# Altium integrated library Altera MAX 7000B.IntLib: 128 symbols (part 4 of 9)
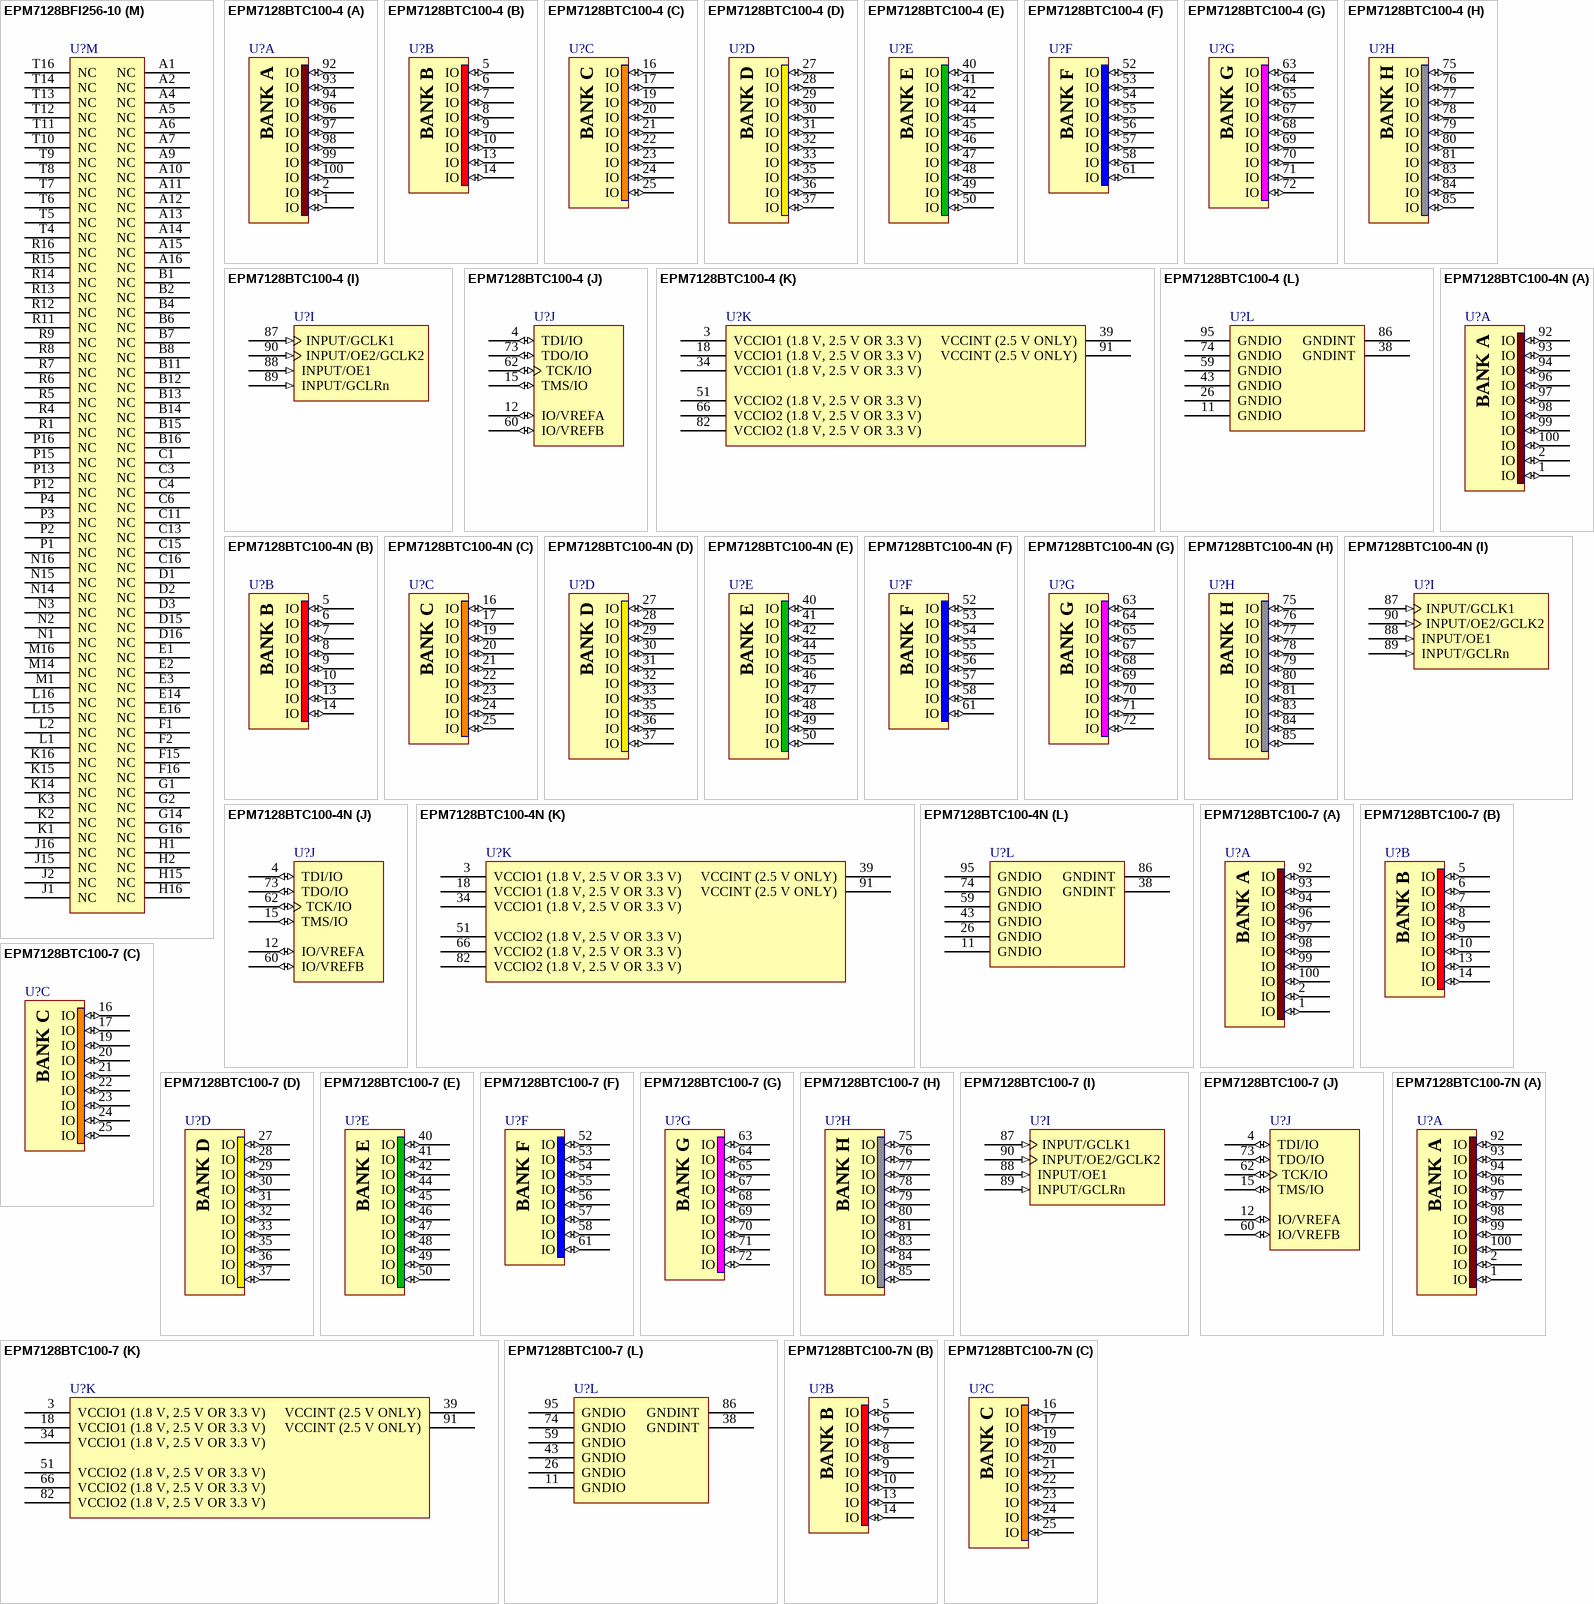
[diagram p50: symbols EPM7128BFI256-10 to EPM7128BTC100-7N]

## EPM7128BTC100-7
designator U?
Max 7000B 2.5V CPLD, 128 Macrocells, 100-Pin TQFP, Speed Grade 7, Commercial Grade; Published: 23-Sep-2002; LatestRevisionDate: 13-Apr-2006; LatestRevisionNote: IPC-7351 Footprint Added.; DatasheetVersion: ver3.5, Sep-2005; PackageVersion: ver15.1, May-2008; PackageReference: TQFP100; Publisher: Altium Limited; PackageDescription: 100-Pin Plastic Thin Quad Flat Pack (TQFP100) - Wire Bond; Supplier 1: Digi-Key; Supplier Part Number 1: EPM7128BTC100-7-ND; Code_JEDEC: MS-026-AED; ComponentLink1Description: Manufacturer Link; ComponentLink1URL: http://www.altera.com/products/devices/max7k/m7k-index.html; ComponentLink2Description: Datasheet; ComponentLink2URL: http://www.altera.com/literature/ds/m7000b.pdf; ComponentLink3Description: Packaging Specification; ComponentLink3URL: http://www.altera.com/literature/ds/dspkg.pdf
footprint TQFP100_N (Thin QFP, 100-Leads, Body 14x14mm, Pitch 0.5mm, IPC Medium Density)
footprint TQFP100_L (Thin QFP, 100-Leads, Body 14x14mm, Pitch 0.5mm, IPC High Density)
footprint TQFP100_M (Thin QFP, 100-Leads, Body 14x14mm, Pitch 0.5mm, IPC Low Density)
3D model EPM7128B-TQFP100 (100-Pin Plastic Thin Quad Flat Pack (TQFP100) - Wire Bond)
signal-integrity model 7kb (MAX 7000B)
part A pins: 1 IO (io), 2 IO (io), 92 IO (io), 93 IO (io), 94 IO (io), 96 IO (io), 97 IO (io), 98 IO (io), 99 IO (io), 100 IO (io)
part B pins: 5 IO (io), 6 IO (io), 7 IO (io), 8 IO (io), 9 IO (io), 10 IO (io), 13 IO (io), 14 IO (io)
part C pins: 16 IO (io), 17 IO (io), 19 IO (io), 20 IO (io), 21 IO (io), 22 IO (io), 23 IO (io), 24 IO (io), 25 IO (io)
part D pins: 27 IO (io), 28 IO (io), 29 IO (io), 30 IO (io), 31 IO (io), 32 IO (io), 33 IO (io), 35 IO (io), 36 IO (io), 37 IO (io)
part E pins: 40 IO (io), 41 IO (io), 42 IO (io), 44 IO (io), 45 IO (io), 46 IO (io), 47 IO (io), 48 IO (io), 49 IO (io), 50 IO (io)
part F pins: 52 IO (io), 53 IO (io), 54 IO (io), 55 IO (io), 56 IO (io), 57 IO (io), 58 IO (io), 61 IO (io)
part G pins: 63 IO (io), 64 IO (io), 65 IO (io), 67 IO (io), 68 IO (io), 69 IO (io), 70 IO (io), 71 IO (io), 72 IO (io)
part H pins: 75 IO (io), 76 IO (io), 77 IO (io), 78 IO (io), 79 IO (io), 80 IO (io), 81 IO (io), 83 IO (io), 84 IO (io), 85 IO (io)
part I pins: 87 INPUT/GCLK1 (in), 88 INPUT/OE1 (in), 89 INPUT/GCLRn (in), 90 INPUT/OE2/GCLK2 (in)
part J pins: 4 TDI/IO (io), 12 IO/VREFA (io), 15 TMS/IO (io), 60 IO/VREFB (io), 62 TCK/IO (io), 73 TDO/IO (io)
part K pins: 3 VCCIO1 (1.8 V, 2.5 V OR 3.3 V) (power), 18 VCCIO1 (1.8 V, 2.5 V OR 3.3 V) (power), 34 VCCIO1 (1.8 V, 2.5 V OR 3.3 V) (power), 39 VCCINT (2.5 V ONLY) (power), 51 VCCIO2 (1.8 V, 2.5 V OR 3.3 V) (power), 66 VCCIO2 (1.8 V, 2.5 V OR 3.3 V) (power), 82 VCCIO2 (1.8 V, 2.5 V OR 3.3 V) (power), 91 VCCINT (2.5 V ONLY) (power)
part L pins: 11 GNDIO (power), 26 GNDIO (power), 38 GNDINT (power), 43 GNDIO (power), 59 GNDIO (power), 74 GNDIO (power), 86 GNDINT (power), 95 GNDIO (power)
part A text: BANK A
part B text: BANK B
part C text: BANK C
part D text: BANK D
part E text: BANK E
part F text: BANK F
part G text: BANK G
part H text: BANK H

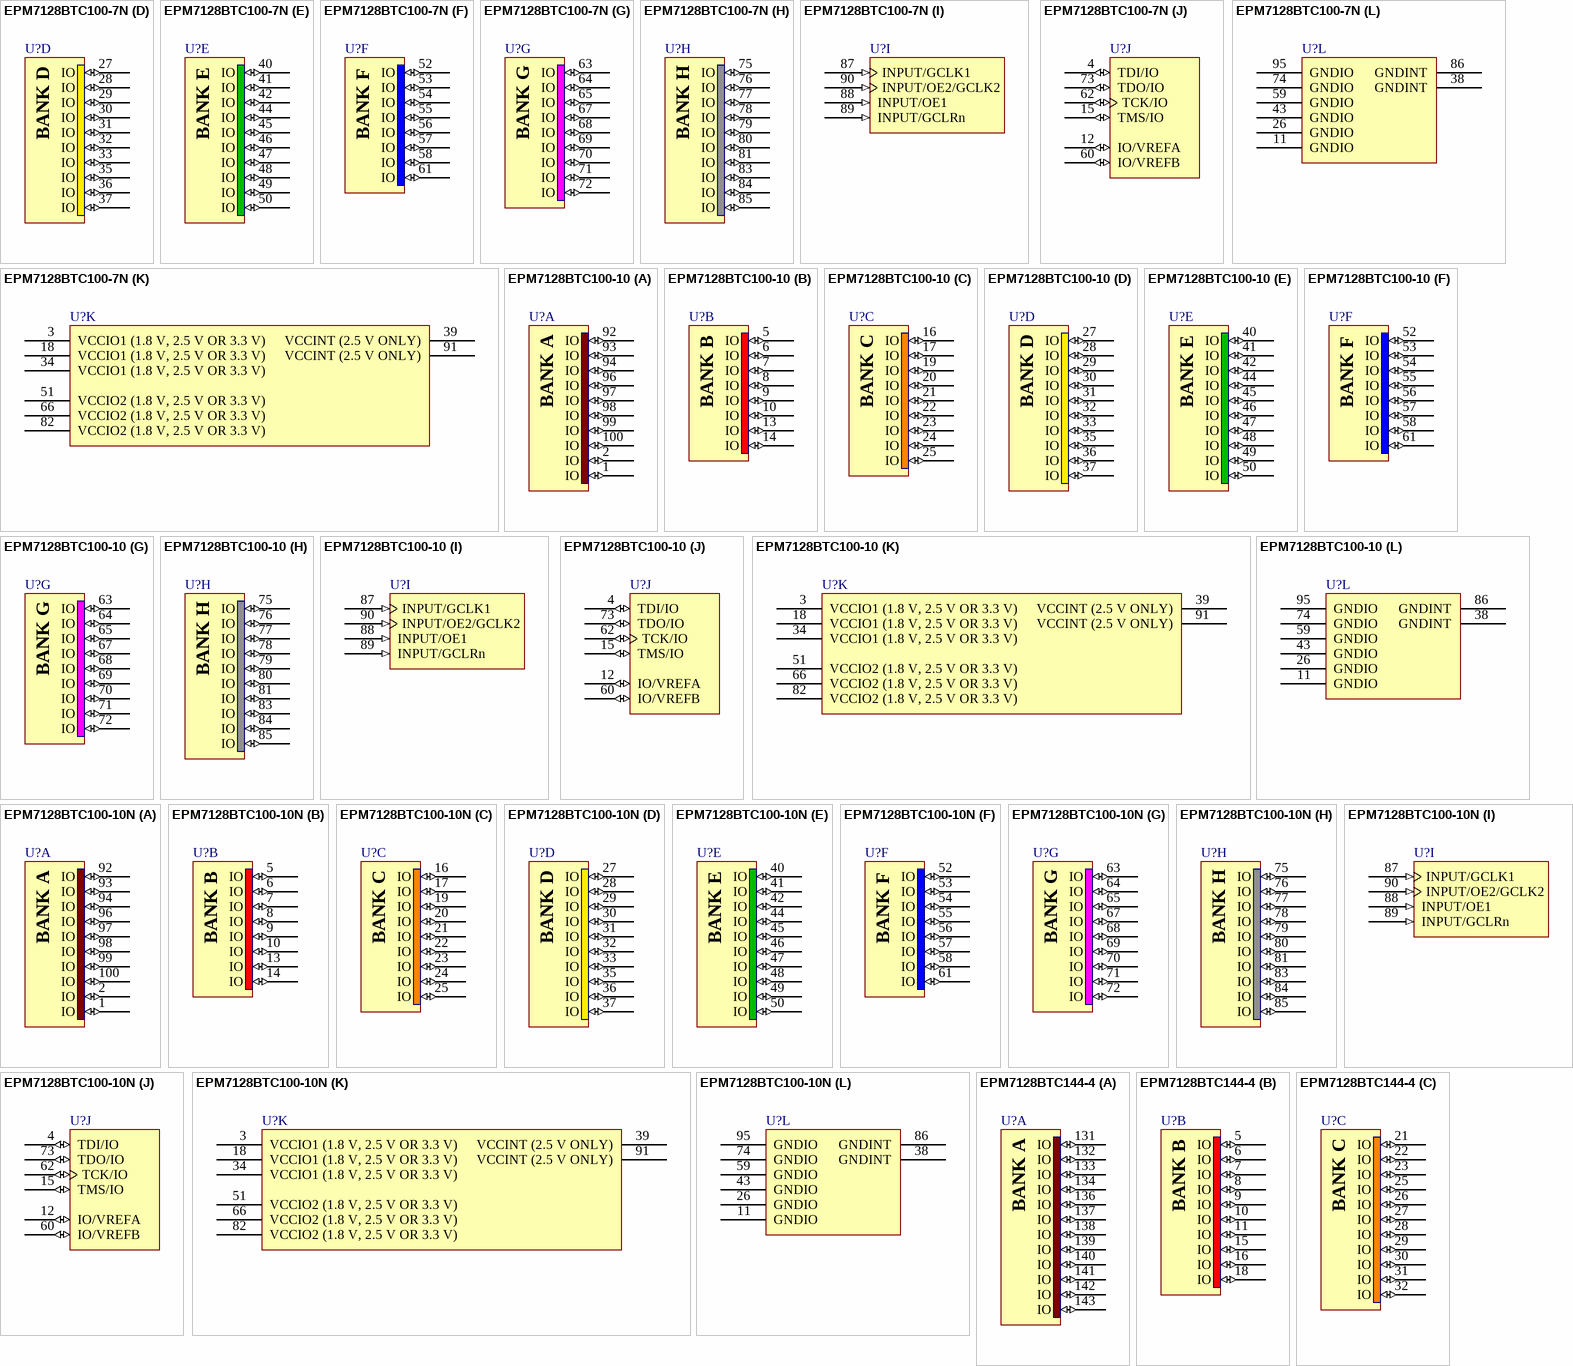
[diagram p16: symbols EPM7128BTC100-7N to EPM7128BTC144-4]

## EPM7128BTC100-7N
designator U?
Max 7000B 2.5V CPLD, 128 Macrocells, 100-Pin TQFP, Speed Grade 7, Commercial Grade, Pb-Free; Published: 4-Mar-2005; LatestRevisionDate: 13-Apr-2006; LatestRevisionNote: IPC-7351 Footprint Added.; DatasheetVersion: ver3.5, Sep-2005; PackageVersion: ver15.1, May-2008; PackageReference: TQFP100; Publisher: Altium Limited; PackageDescription: 100-Pin Plastic Thin Quad Flat Pack (TQFP100) - Wire Bond; Supplier 1: Digi-Key; Supplier Part Number 1: EPM7128BTC100-7N-ND; Code_JEDEC: MS-026-AED; ComponentLink1Description: Manufacturer Link; ComponentLink1URL: http://www.altera.com/products/devices/max7k/m7k-index.html; ComponentLink2Description: Datasheet; ComponentLink2URL: http://www.altera.com/literature/ds/m7000b.pdf; ComponentLink3Description: Packaging Specification; ComponentLink3URL: http://www.altera.com/literature/ds/dspkg.pdf
footprint TQFP100_N (Thin QFP, 100-Leads, Body 14x14mm, Pitch 0.5mm, IPC Medium Density)
footprint TQFP100_L (Thin QFP, 100-Leads, Body 14x14mm, Pitch 0.5mm, IPC High Density)
footprint TQFP100_M (Thin QFP, 100-Leads, Body 14x14mm, Pitch 0.5mm, IPC Low Density)
3D model EPM7128B-TQFP100 (100-Pin Plastic Thin Quad Flat Pack (TQFP100) - Wire Bond)
signal-integrity model 7kb (MAX 7000B)
part A pins: 1 IO (io), 2 IO (io), 92 IO (io), 93 IO (io), 94 IO (io), 96 IO (io), 97 IO (io), 98 IO (io), 99 IO (io), 100 IO (io)
part B pins: 5 IO (io), 6 IO (io), 7 IO (io), 8 IO (io), 9 IO (io), 10 IO (io), 13 IO (io), 14 IO (io)
part C pins: 16 IO (io), 17 IO (io), 19 IO (io), 20 IO (io), 21 IO (io), 22 IO (io), 23 IO (io), 24 IO (io), 25 IO (io)
part D pins: 27 IO (io), 28 IO (io), 29 IO (io), 30 IO (io), 31 IO (io), 32 IO (io), 33 IO (io), 35 IO (io), 36 IO (io), 37 IO (io)
part E pins: 40 IO (io), 41 IO (io), 42 IO (io), 44 IO (io), 45 IO (io), 46 IO (io), 47 IO (io), 48 IO (io), 49 IO (io), 50 IO (io)
part F pins: 52 IO (io), 53 IO (io), 54 IO (io), 55 IO (io), 56 IO (io), 57 IO (io), 58 IO (io), 61 IO (io)
part G pins: 63 IO (io), 64 IO (io), 65 IO (io), 67 IO (io), 68 IO (io), 69 IO (io), 70 IO (io), 71 IO (io), 72 IO (io)
part H pins: 75 IO (io), 76 IO (io), 77 IO (io), 78 IO (io), 79 IO (io), 80 IO (io), 81 IO (io), 83 IO (io), 84 IO (io), 85 IO (io)
part I pins: 87 INPUT/GCLK1 (in), 88 INPUT/OE1 (in), 89 INPUT/GCLRn (in), 90 INPUT/OE2/GCLK2 (in)
part J pins: 4 TDI/IO (io), 12 IO/VREFA (io), 15 TMS/IO (io), 60 IO/VREFB (io), 62 TCK/IO (io), 73 TDO/IO (io)
part K pins: 3 VCCIO1 (1.8 V, 2.5 V OR 3.3 V) (power), 18 VCCIO1 (1.8 V, 2.5 V OR 3.3 V) (power), 34 VCCIO1 (1.8 V, 2.5 V OR 3.3 V) (power), 39 VCCINT (2.5 V ONLY) (power), 51 VCCIO2 (1.8 V, 2.5 V OR 3.3 V) (power), 66 VCCIO2 (1.8 V, 2.5 V OR 3.3 V) (power), 82 VCCIO2 (1.8 V, 2.5 V OR 3.3 V) (power), 91 VCCINT (2.5 V ONLY) (power)
part L pins: 11 GNDIO (power), 26 GNDIO (power), 38 GNDINT (power), 43 GNDIO (power), 59 GNDIO (power), 74 GNDIO (power), 86 GNDINT (power), 95 GNDIO (power)
part A text: BANK A
part B text: BANK B
part C text: BANK C
part D text: BANK D
part E text: BANK E
part F text: BANK F
part G text: BANK G
part H text: BANK H

## EPM7128BTC100-10
designator U?
Max 7000B 2.5V CPLD, 128 Macrocells, 100-Pin TQFP, Speed Grade 10, Commercial Grade; Published: 23-Sep-2002; LatestRevisionDate: 13-Apr-2006; LatestRevisionNote: IPC-7351 Footprint Added.; DatasheetVersion: ver3.5, Sep-2005; PackageVersion: ver15.1, May-2008; PackageReference: TQFP100; Publisher: Altium Limited; PackageDescription: 100-Pin Plastic Thin Quad Flat Pack (TQFP100) - Wire Bond; Code_JEDEC: MS-026-AED; ComponentLink1Description: Manufacturer Link; ComponentLink1URL: http://www.altera.com/products/devices/max7k/m7k-index.html; ComponentLink2Description: Datasheet; ComponentLink2URL: http://www.altera.com/literature/ds/m7000b.pdf; ComponentLink3Description: Packaging Specification; ComponentLink3URL: http://www.altera.com/literature/ds/dspkg.pdf
footprint TQFP100_N (Thin QFP, 100-Leads, Body 14x14mm, Pitch 0.5mm, IPC Medium Density)
footprint TQFP100_L (Thin QFP, 100-Leads, Body 14x14mm, Pitch 0.5mm, IPC High Density)
footprint TQFP100_M (Thin QFP, 100-Leads, Body 14x14mm, Pitch 0.5mm, IPC Low Density)
3D model EPM7128B-TQFP100 (100-Pin Plastic Thin Quad Flat Pack (TQFP100) - Wire Bond)
signal-integrity model 7kb (MAX 7000B)
part A pins: 1 IO (io), 2 IO (io), 92 IO (io), 93 IO (io), 94 IO (io), 96 IO (io), 97 IO (io), 98 IO (io), 99 IO (io), 100 IO (io)
part B pins: 5 IO (io), 6 IO (io), 7 IO (io), 8 IO (io), 9 IO (io), 10 IO (io), 13 IO (io), 14 IO (io)
part C pins: 16 IO (io), 17 IO (io), 19 IO (io), 20 IO (io), 21 IO (io), 22 IO (io), 23 IO (io), 24 IO (io), 25 IO (io)
part D pins: 27 IO (io), 28 IO (io), 29 IO (io), 30 IO (io), 31 IO (io), 32 IO (io), 33 IO (io), 35 IO (io), 36 IO (io), 37 IO (io)
part E pins: 40 IO (io), 41 IO (io), 42 IO (io), 44 IO (io), 45 IO (io), 46 IO (io), 47 IO (io), 48 IO (io), 49 IO (io), 50 IO (io)
part F pins: 52 IO (io), 53 IO (io), 54 IO (io), 55 IO (io), 56 IO (io), 57 IO (io), 58 IO (io), 61 IO (io)
part G pins: 63 IO (io), 64 IO (io), 65 IO (io), 67 IO (io), 68 IO (io), 69 IO (io), 70 IO (io), 71 IO (io), 72 IO (io)
part H pins: 75 IO (io), 76 IO (io), 77 IO (io), 78 IO (io), 79 IO (io), 80 IO (io), 81 IO (io), 83 IO (io), 84 IO (io), 85 IO (io)
part I pins: 87 INPUT/GCLK1 (in), 88 INPUT/OE1 (in), 89 INPUT/GCLRn (in), 90 INPUT/OE2/GCLK2 (in)
part J pins: 4 TDI/IO (io), 12 IO/VREFA (io), 15 TMS/IO (io), 60 IO/VREFB (io), 62 TCK/IO (io), 73 TDO/IO (io)
part K pins: 3 VCCIO1 (1.8 V, 2.5 V OR 3.3 V) (power), 18 VCCIO1 (1.8 V, 2.5 V OR 3.3 V) (power), 34 VCCIO1 (1.8 V, 2.5 V OR 3.3 V) (power), 39 VCCINT (2.5 V ONLY) (power), 51 VCCIO2 (1.8 V, 2.5 V OR 3.3 V) (power), 66 VCCIO2 (1.8 V, 2.5 V OR 3.3 V) (power), 82 VCCIO2 (1.8 V, 2.5 V OR 3.3 V) (power), 91 VCCINT (2.5 V ONLY) (power)
part L pins: 11 GNDIO (power), 26 GNDIO (power), 38 GNDINT (power), 43 GNDIO (power), 59 GNDIO (power), 74 GNDIO (power), 86 GNDINT (power), 95 GNDIO (power)
part A text: BANK A
part B text: BANK B
part C text: BANK C
part D text: BANK D
part E text: BANK E
part F text: BANK F
part G text: BANK G
part H text: BANK H

## EPM7128BTC100-10N
designator U?
Max 7000B 2.5V CPLD, 128 Macrocells, 100-Pin TQFP, Speed Grade 10, Commercial Grade, Pb-Free; Published: 13-Apr-2006; DatasheetVersion: ver3.5, Sep-2005; PackageVersion: ver15.1, May-2008; PackageReference: TQFP100; Publisher: Altium Limited; PackageDescription: 100-Pin Plastic Thin Quad Flat Pack (TQFP100) - Wire Bond; Code_JEDEC: MS-026-AED; ComponentLink1Description: Manufacturer Link; ComponentLink1URL: http://www.altera.com/products/devices/max7k/m7k-index.html; ComponentLink2Description: Datasheet; ComponentLink2URL: http://www.altera.com/literature/ds/m7000b.pdf; ComponentLink3Description: Packaging Specification; ComponentLink3URL: http://www.altera.com/literature/ds/dspkg.pdf
footprint TQFP100_N (Thin QFP, 100-Leads, Body 14x14mm, Pitch 0.5mm, IPC Medium Density)
footprint TQFP100_L (Thin QFP, 100-Leads, Body 14x14mm, Pitch 0.5mm, IPC High Density)
footprint TQFP100_M (Thin QFP, 100-Leads, Body 14x14mm, Pitch 0.5mm, IPC Low Density)
3D model EPM7128B-TQFP100 (100-Pin Plastic Thin Quad Flat Pack (TQFP100) - Wire Bond)
signal-integrity model 7kb (MAX 7000B)
part A pins: 1 IO (io), 2 IO (io), 92 IO (io), 93 IO (io), 94 IO (io), 96 IO (io), 97 IO (io), 98 IO (io), 99 IO (io), 100 IO (io)
part B pins: 5 IO (io), 6 IO (io), 7 IO (io), 8 IO (io), 9 IO (io), 10 IO (io), 13 IO (io), 14 IO (io)
part C pins: 16 IO (io), 17 IO (io), 19 IO (io), 20 IO (io), 21 IO (io), 22 IO (io), 23 IO (io), 24 IO (io), 25 IO (io)
part D pins: 27 IO (io), 28 IO (io), 29 IO (io), 30 IO (io), 31 IO (io), 32 IO (io), 33 IO (io), 35 IO (io), 36 IO (io), 37 IO (io)
part E pins: 40 IO (io), 41 IO (io), 42 IO (io), 44 IO (io), 45 IO (io), 46 IO (io), 47 IO (io), 48 IO (io), 49 IO (io), 50 IO (io)
part F pins: 52 IO (io), 53 IO (io), 54 IO (io), 55 IO (io), 56 IO (io), 57 IO (io), 58 IO (io), 61 IO (io)
part G pins: 63 IO (io), 64 IO (io), 65 IO (io), 67 IO (io), 68 IO (io), 69 IO (io), 70 IO (io), 71 IO (io), 72 IO (io)
part H pins: 75 IO (io), 76 IO (io), 77 IO (io), 78 IO (io), 79 IO (io), 80 IO (io), 81 IO (io), 83 IO (io), 84 IO (io), 85 IO (io)
part I pins: 87 INPUT/GCLK1 (in), 88 INPUT/OE1 (in), 89 INPUT/GCLRn (in), 90 INPUT/OE2/GCLK2 (in)
part J pins: 4 TDI/IO (io), 12 IO/VREFA (io), 15 TMS/IO (io), 60 IO/VREFB (io), 62 TCK/IO (io), 73 TDO/IO (io)
part K pins: 3 VCCIO1 (1.8 V, 2.5 V OR 3.3 V) (power), 18 VCCIO1 (1.8 V, 2.5 V OR 3.3 V) (power), 34 VCCIO1 (1.8 V, 2.5 V OR 3.3 V) (power), 39 VCCINT (2.5 V ONLY) (power), 51 VCCIO2 (1.8 V, 2.5 V OR 3.3 V) (power), 66 VCCIO2 (1.8 V, 2.5 V OR 3.3 V) (power), 82 VCCIO2 (1.8 V, 2.5 V OR 3.3 V) (power), 91 VCCINT (2.5 V ONLY) (power)
part L pins: 11 GNDIO (power), 26 GNDIO (power), 38 GNDINT (power), 43 GNDIO (power), 59 GNDIO (power), 74 GNDIO (power), 86 GNDINT (power), 95 GNDIO (power)
part A text: BANK A
part B text: BANK B
part C text: BANK C
part D text: BANK D
part E text: BANK E
part F text: BANK F
part G text: BANK G
part H text: BANK H

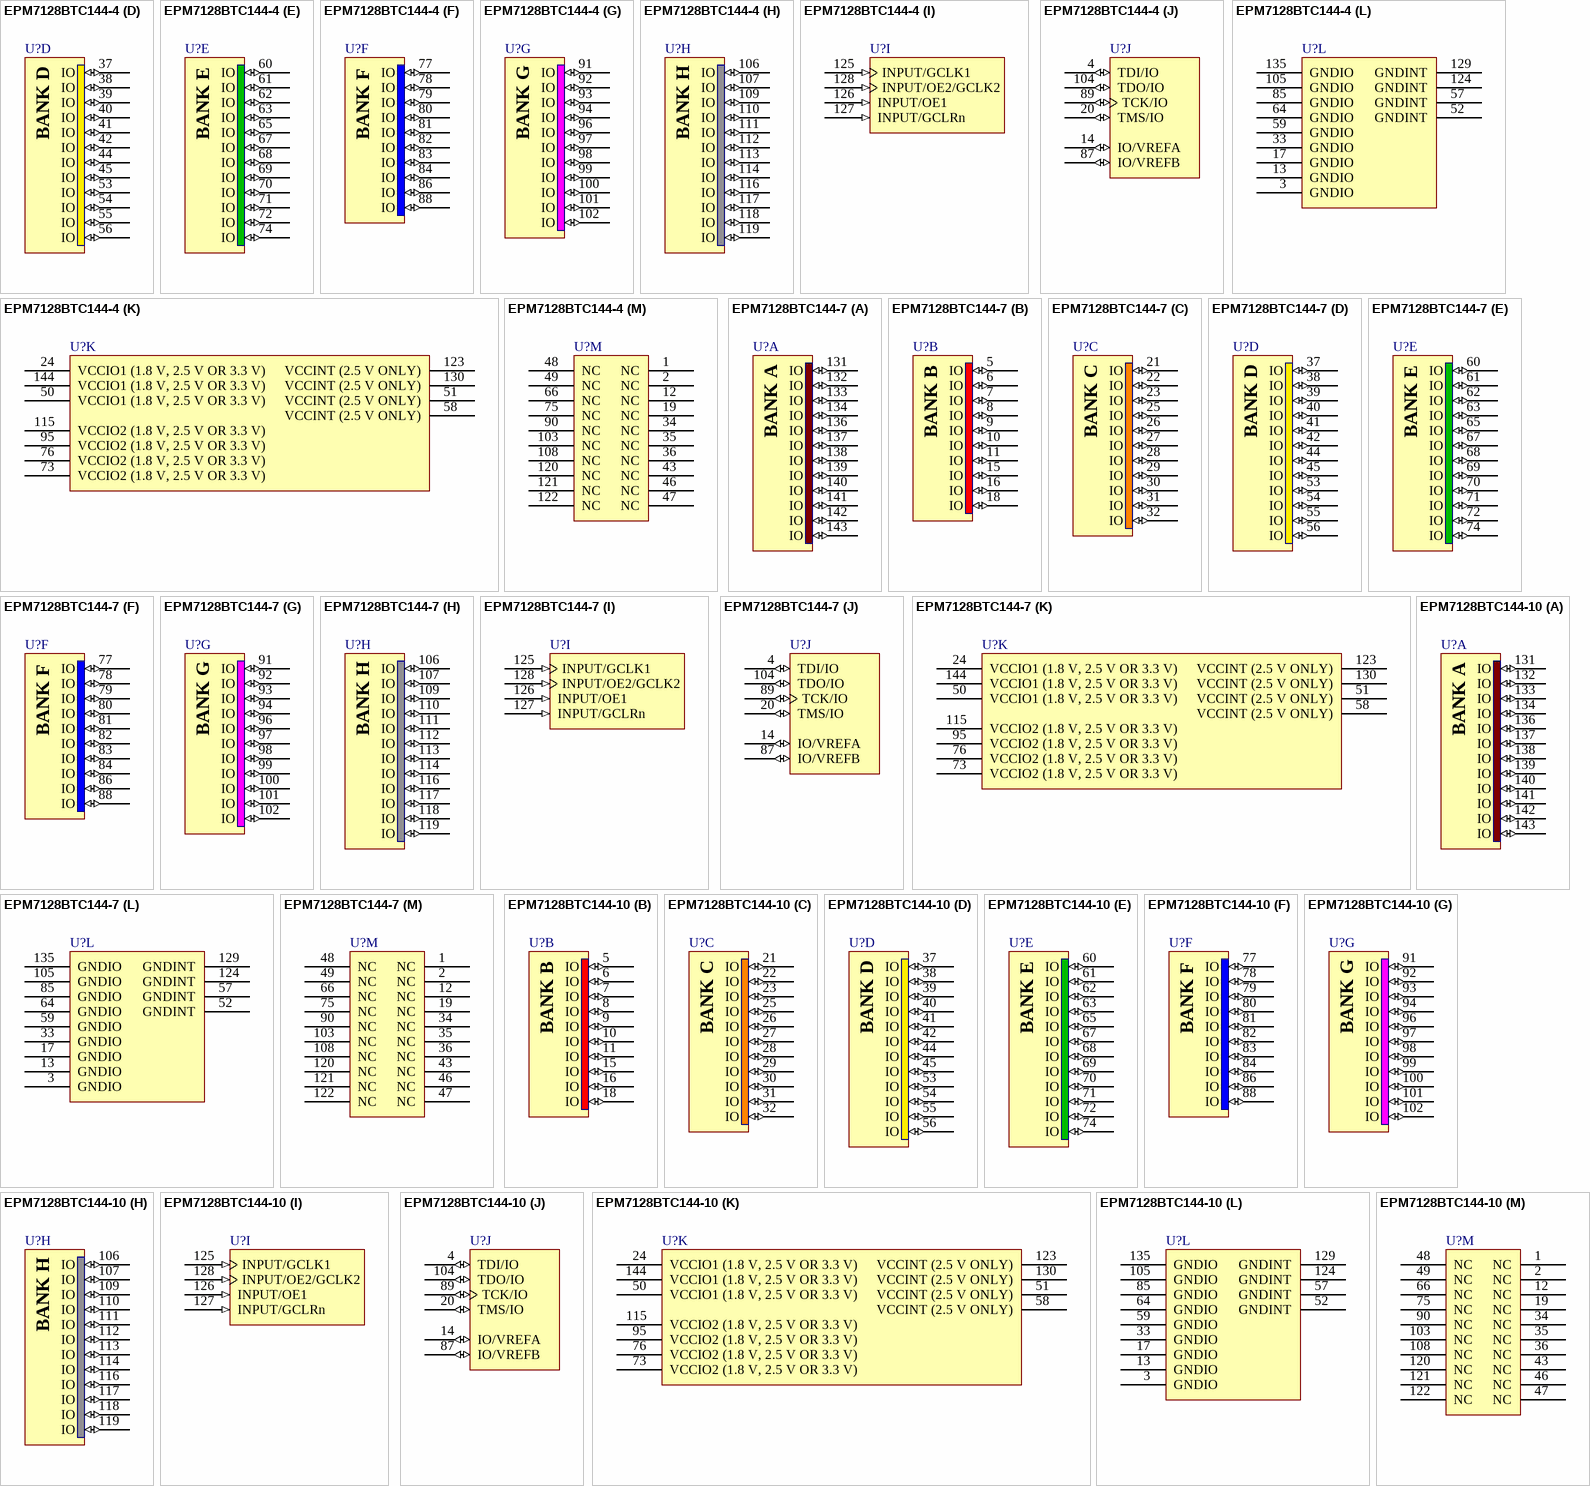
[diagram p17: symbols EPM7128BTC144-4 to EPM7128BTC144-10]

## EPM7128BTC144-4
designator U?
Max 7000B 2.5V CPLD, 128 Macrocells, 144-Pin TQFP, Speed Grade 4, Commercial Grade; Published: 23-Sep-2002; LatestRevisionDate: 13-Apr-2006; LatestRevisionNote: IPC-7351 Footprint Added.; DatasheetVersion: ver3.5, Sep-2005; PackageVersion: ver15.4, Dec-2008; PackageReference: TQFP144; Publisher: Altium Limited; PackageDescription: 144-Pin Plastic Thin Quad Flat Pack (TQFP144) - Wire Bond; Code_JEDEC: MS-026-BFB; ComponentLink1Description: Manufacturer Link; ComponentLink1URL: http://www.altera.com/products/devices/max7k/m7k-index.html; ComponentLink2Description: Datasheet; ComponentLink2URL: http://www.altera.com/literature/ds/m7000b.pdf; ComponentLink3Description: Packaging Specification; ComponentLink3URL: http://www.altera.com/literature/ds/dspkg.pdf
footprint TQFP144_N (Thin QFP, 144-Leads, Body 20x20mm, Pitch 0.5mm, IPC Medium Density)
footprint TQFP144_L (Thin QFP, 144-Leads, Body 20x20mm, Pitch 0.5mm, IPC High Density)
footprint TQFP144_M (Thin QFP, 144-Leads, Body 20x20mm, Pitch 0.5mm, IPC Low Density)
3D model EPM7128B-TQFP144 (144-Pin Plastic Thin Quad Flat Pack (TQFP144) - Wire Bond)
signal-integrity model 7kb (MAX 7000B)
part A pins: 131 IO (io), 132 IO (io), 133 IO (io), 134 IO (io), 136 IO (io), 137 IO (io), 138 IO (io), 139 IO (io), 140 IO (io), 141 IO (io), 142 IO (io), 143 IO (io)
part B pins: 5 IO (io), 6 IO (io), 7 IO (io), 8 IO (io), 9 IO (io), 10 IO (io), 11 IO (io), 15 IO (io), 16 IO (io), 18 IO (io)
part C pins: 21 IO (io), 22 IO (io), 23 IO (io), 25 IO (io), 26 IO (io), 27 IO (io), 28 IO (io), 29 IO (io), 30 IO (io), 31 IO (io), 32 IO (io)
part D pins: 37 IO (io), 38 IO (io), 39 IO (io), 40 IO (io), 41 IO (io), 42 IO (io), 44 IO (io), 45 IO (io), 53 IO (io), 54 IO (io), 55 IO (io), 56 IO (io)
part E pins: 60 IO (io), 61 IO (io), 62 IO (io), 63 IO (io), 65 IO (io), 67 IO (io), 68 IO (io), 69 IO (io), 70 IO (io), 71 IO (io), 72 IO (io), 74 IO (io)
part F pins: 77 IO (io), 78 IO (io), 79 IO (io), 80 IO (io), 81 IO (io), 82 IO (io), 83 IO (io), 84 IO (io), 86 IO (io), 88 IO (io)
part G pins: 91 IO (io), 92 IO (io), 93 IO (io), 94 IO (io), 96 IO (io), 97 IO (io), 98 IO (io), 99 IO (io), 100 IO (io), 101 IO (io), 102 IO (io)
part H pins: 106 IO (io), 107 IO (io), 109 IO (io), 110 IO (io), 111 IO (io), 112 IO (io), 113 IO (io), 114 IO (io), 116 IO (io), 117 IO (io), 118 IO (io), 119 IO (io)
part I pins: 125 INPUT/GCLK1 (in), 126 INPUT/OE1 (in), 127 INPUT/GCLRn (in), 128 INPUT/OE2/GCLK2 (in)
part J pins: 4 TDI/IO (io), 14 IO/VREFA (io), 20 TMS/IO (io), 87 IO/VREFB (io), 89 TCK/IO (io), 104 TDO/IO (io)
part K pins: 24 VCCIO1 (1.8 V, 2.5 V OR 3.3 V) (power), 50 VCCIO1 (1.8 V, 2.5 V OR 3.3 V) (power), 51 VCCINT (2.5 V ONLY) (power), 58 VCCINT (2.5 V ONLY) (power), 73 VCCIO2 (1.8 V, 2.5 V OR 3.3 V) (power), 76 VCCIO2 (1.8 V, 2.5 V OR 3.3 V) (power), 95 VCCIO2 (1.8 V, 2.5 V OR 3.3 V) (power), 115 VCCIO2 (1.8 V, 2.5 V OR 3.3 V) (power), 123 VCCINT (2.5 V ONLY) (power), 130 VCCINT (2.5 V ONLY) (power), 144 VCCIO1 (1.8 V, 2.5 V OR 3.3 V) (power)
part L pins: 3 GNDIO (power), 13 GNDIO (power), 17 GNDIO (power), 33 GNDIO (power), 52 GNDINT (power), 57 GNDINT (power), 59 GNDIO (power), 64 GNDIO (power), 85 GNDIO (power), 105 GNDIO (power), 124 GNDINT (power), 129 GNDINT (power), 135 GNDIO (power)
part M pins: 1 NC, 2 NC, 12 NC, 19 NC, 34 NC, 35 NC, 36 NC, 43 NC, 46 NC, 47 NC, 48 NC, 49 NC, 66 NC, 75 NC, 90 NC, 103 NC, 108 NC, 120 NC, 121 NC, 122 NC
part A text: BANK A
part B text: BANK B
part C text: BANK C
part D text: BANK D
part E text: BANK E
part F text: BANK F
part G text: BANK G
part H text: BANK H

## EPM7128BTC144-7
designator U?
Max 7000B 2.5V CPLD, 128 Macrocells, 144-Pin TQFP, Speed Grade 7, Commercial Grade; Published: 23-Sep-2002; LatestRevisionDate: 13-Apr-2006; LatestRevisionNote: IPC-7351 Footprint Added.; DatasheetVersion: ver3.5, Sep-2005; PackageVersion: ver15.4, Dec-2008; PackageReference: TQFP144; Publisher: Altium Limited; PackageDescription: 144-Pin Plastic Thin Quad Flat Pack (TQFP144) - Wire Bond; Code_JEDEC: MS-026-BFB; ComponentLink1Description: Manufacturer Link; ComponentLink1URL: http://www.altera.com/products/devices/max7k/m7k-index.html; ComponentLink2Description: Datasheet; ComponentLink2URL: http://www.altera.com/literature/ds/m7000b.pdf; ComponentLink3Description: Packaging Specification; ComponentLink3URL: http://www.altera.com/literature/ds/dspkg.pdf
footprint TQFP144_N (Thin QFP, 144-Leads, Body 20x20mm, Pitch 0.5mm, IPC Medium Density)
footprint TQFP144_L (Thin QFP, 144-Leads, Body 20x20mm, Pitch 0.5mm, IPC High Density)
footprint TQFP144_M (Thin QFP, 144-Leads, Body 20x20mm, Pitch 0.5mm, IPC Low Density)
3D model EPM7128B-TQFP144 (144-Pin Plastic Thin Quad Flat Pack (TQFP144) - Wire Bond)
signal-integrity model 7kb (MAX 7000B)
part A pins: 131 IO (io), 132 IO (io), 133 IO (io), 134 IO (io), 136 IO (io), 137 IO (io), 138 IO (io), 139 IO (io), 140 IO (io), 141 IO (io), 142 IO (io), 143 IO (io)
part B pins: 5 IO (io), 6 IO (io), 7 IO (io), 8 IO (io), 9 IO (io), 10 IO (io), 11 IO (io), 15 IO (io), 16 IO (io), 18 IO (io)
part C pins: 21 IO (io), 22 IO (io), 23 IO (io), 25 IO (io), 26 IO (io), 27 IO (io), 28 IO (io), 29 IO (io), 30 IO (io), 31 IO (io), 32 IO (io)
part D pins: 37 IO (io), 38 IO (io), 39 IO (io), 40 IO (io), 41 IO (io), 42 IO (io), 44 IO (io), 45 IO (io), 53 IO (io), 54 IO (io), 55 IO (io), 56 IO (io)
part E pins: 60 IO (io), 61 IO (io), 62 IO (io), 63 IO (io), 65 IO (io), 67 IO (io), 68 IO (io), 69 IO (io), 70 IO (io), 71 IO (io), 72 IO (io), 74 IO (io)
part F pins: 77 IO (io), 78 IO (io), 79 IO (io), 80 IO (io), 81 IO (io), 82 IO (io), 83 IO (io), 84 IO (io), 86 IO (io), 88 IO (io)
part G pins: 91 IO (io), 92 IO (io), 93 IO (io), 94 IO (io), 96 IO (io), 97 IO (io), 98 IO (io), 99 IO (io), 100 IO (io), 101 IO (io), 102 IO (io)
part H pins: 106 IO (io), 107 IO (io), 109 IO (io), 110 IO (io), 111 IO (io), 112 IO (io), 113 IO (io), 114 IO (io), 116 IO (io), 117 IO (io), 118 IO (io), 119 IO (io)
part I pins: 125 INPUT/GCLK1 (in), 126 INPUT/OE1 (in), 127 INPUT/GCLRn (in), 128 INPUT/OE2/GCLK2 (in)
part J pins: 4 TDI/IO (io), 14 IO/VREFA (io), 20 TMS/IO (io), 87 IO/VREFB (io), 89 TCK/IO (io), 104 TDO/IO (io)
part K pins: 24 VCCIO1 (1.8 V, 2.5 V OR 3.3 V) (power), 50 VCCIO1 (1.8 V, 2.5 V OR 3.3 V) (power), 51 VCCINT (2.5 V ONLY) (power), 58 VCCINT (2.5 V ONLY) (power), 73 VCCIO2 (1.8 V, 2.5 V OR 3.3 V) (power), 76 VCCIO2 (1.8 V, 2.5 V OR 3.3 V) (power), 95 VCCIO2 (1.8 V, 2.5 V OR 3.3 V) (power), 115 VCCIO2 (1.8 V, 2.5 V OR 3.3 V) (power), 123 VCCINT (2.5 V ONLY) (power), 130 VCCINT (2.5 V ONLY) (power), 144 VCCIO1 (1.8 V, 2.5 V OR 3.3 V) (power)
part L pins: 3 GNDIO (power), 13 GNDIO (power), 17 GNDIO (power), 33 GNDIO (power), 52 GNDINT (power), 57 GNDINT (power), 59 GNDIO (power), 64 GNDIO (power), 85 GNDIO (power), 105 GNDIO (power), 124 GNDINT (power), 129 GNDINT (power), 135 GNDIO (power)
part M pins: 1 NC, 2 NC, 12 NC, 19 NC, 34 NC, 35 NC, 36 NC, 43 NC, 46 NC, 47 NC, 48 NC, 49 NC, 66 NC, 75 NC, 90 NC, 103 NC, 108 NC, 120 NC, 121 NC, 122 NC
part A text: BANK A
part B text: BANK B
part C text: BANK C
part D text: BANK D
part E text: BANK E
part F text: BANK F
part G text: BANK G
part H text: BANK H

## EPM7128BTC144-10
designator U?
Max 7000B 2.5V CPLD, 128 Macrocells, 144-Pin TQFP, Speed Grade 10, Commercial Grade; Published: 23-Sep-2002; LatestRevisionDate: 13-Apr-2006; LatestRevisionNote: IPC-7351 Footprint Added.; DatasheetVersion: ver3.5, Sep-2005; PackageVersion: ver15.4, Dec-2008; PackageReference: TQFP144; Publisher: Altium Limited; PackageDescription: 144-Pin Plastic Thin Quad Flat Pack (TQFP144) - Wire Bond; Code_JEDEC: MS-026-BFB; ComponentLink1Description: Manufacturer Link; ComponentLink1URL: http://www.altera.com/products/devices/max7k/m7k-index.html; ComponentLink2Description: Datasheet; ComponentLink2URL: http://www.altera.com/literature/ds/m7000b.pdf; ComponentLink3Description: Packaging Specification; ComponentLink3URL: http://www.altera.com/literature/ds/dspkg.pdf
footprint TQFP144_N (Thin QFP, 144-Leads, Body 20x20mm, Pitch 0.5mm, IPC Medium Density)
footprint TQFP144_L (Thin QFP, 144-Leads, Body 20x20mm, Pitch 0.5mm, IPC High Density)
footprint TQFP144_M (Thin QFP, 144-Leads, Body 20x20mm, Pitch 0.5mm, IPC Low Density)
3D model EPM7128B-TQFP144 (144-Pin Plastic Thin Quad Flat Pack (TQFP144) - Wire Bond)
signal-integrity model 7kb (MAX 7000B)
part A pins: 131 IO (io), 132 IO (io), 133 IO (io), 134 IO (io), 136 IO (io), 137 IO (io), 138 IO (io), 139 IO (io), 140 IO (io), 141 IO (io), 142 IO (io), 143 IO (io)
part B pins: 5 IO (io), 6 IO (io), 7 IO (io), 8 IO (io), 9 IO (io), 10 IO (io), 11 IO (io), 15 IO (io), 16 IO (io), 18 IO (io)
part C pins: 21 IO (io), 22 IO (io), 23 IO (io), 25 IO (io), 26 IO (io), 27 IO (io), 28 IO (io), 29 IO (io), 30 IO (io), 31 IO (io), 32 IO (io)
part D pins: 37 IO (io), 38 IO (io), 39 IO (io), 40 IO (io), 41 IO (io), 42 IO (io), 44 IO (io), 45 IO (io), 53 IO (io), 54 IO (io), 55 IO (io), 56 IO (io)
part E pins: 60 IO (io), 61 IO (io), 62 IO (io), 63 IO (io), 65 IO (io), 67 IO (io), 68 IO (io), 69 IO (io), 70 IO (io), 71 IO (io), 72 IO (io), 74 IO (io)
part F pins: 77 IO (io), 78 IO (io), 79 IO (io), 80 IO (io), 81 IO (io), 82 IO (io), 83 IO (io), 84 IO (io), 86 IO (io), 88 IO (io)
part G pins: 91 IO (io), 92 IO (io), 93 IO (io), 94 IO (io), 96 IO (io), 97 IO (io), 98 IO (io), 99 IO (io), 100 IO (io), 101 IO (io), 102 IO (io)
part H pins: 106 IO (io), 107 IO (io), 109 IO (io), 110 IO (io), 111 IO (io), 112 IO (io), 113 IO (io), 114 IO (io), 116 IO (io), 117 IO (io), 118 IO (io), 119 IO (io)
part I pins: 125 INPUT/GCLK1 (in), 126 INPUT/OE1 (in), 127 INPUT/GCLRn (in), 128 INPUT/OE2/GCLK2 (in)
part J pins: 4 TDI/IO (io), 14 IO/VREFA (io), 20 TMS/IO (io), 87 IO/VREFB (io), 89 TCK/IO (io), 104 TDO/IO (io)
part K pins: 24 VCCIO1 (1.8 V, 2.5 V OR 3.3 V) (power), 50 VCCIO1 (1.8 V, 2.5 V OR 3.3 V) (power), 51 VCCINT (2.5 V ONLY) (power), 58 VCCINT (2.5 V ONLY) (power), 73 VCCIO2 (1.8 V, 2.5 V OR 3.3 V) (power), 76 VCCIO2 (1.8 V, 2.5 V OR 3.3 V) (power), 95 VCCIO2 (1.8 V, 2.5 V OR 3.3 V) (power), 115 VCCIO2 (1.8 V, 2.5 V OR 3.3 V) (power), 123 VCCINT (2.5 V ONLY) (power), 130 VCCINT (2.5 V ONLY) (power), 144 VCCIO1 (1.8 V, 2.5 V OR 3.3 V) (power)
part L pins: 3 GNDIO (power), 13 GNDIO (power), 17 GNDIO (power), 33 GNDIO (power), 52 GNDINT (power), 57 GNDINT (power), 59 GNDIO (power), 64 GNDIO (power), 85 GNDIO (power), 105 GNDIO (power), 124 GNDINT (power), 129 GNDINT (power), 135 GNDIO (power)
part M pins: 1 NC, 2 NC, 12 NC, 19 NC, 34 NC, 35 NC, 36 NC, 43 NC, 46 NC, 47 NC, 48 NC, 49 NC, 66 NC, 75 NC, 90 NC, 103 NC, 108 NC, 120 NC, 121 NC, 122 NC
part A text: BANK A
part B text: BANK B
part C text: BANK C
part D text: BANK D
part E text: BANK E
part F text: BANK F
part G text: BANK G
part H text: BANK H

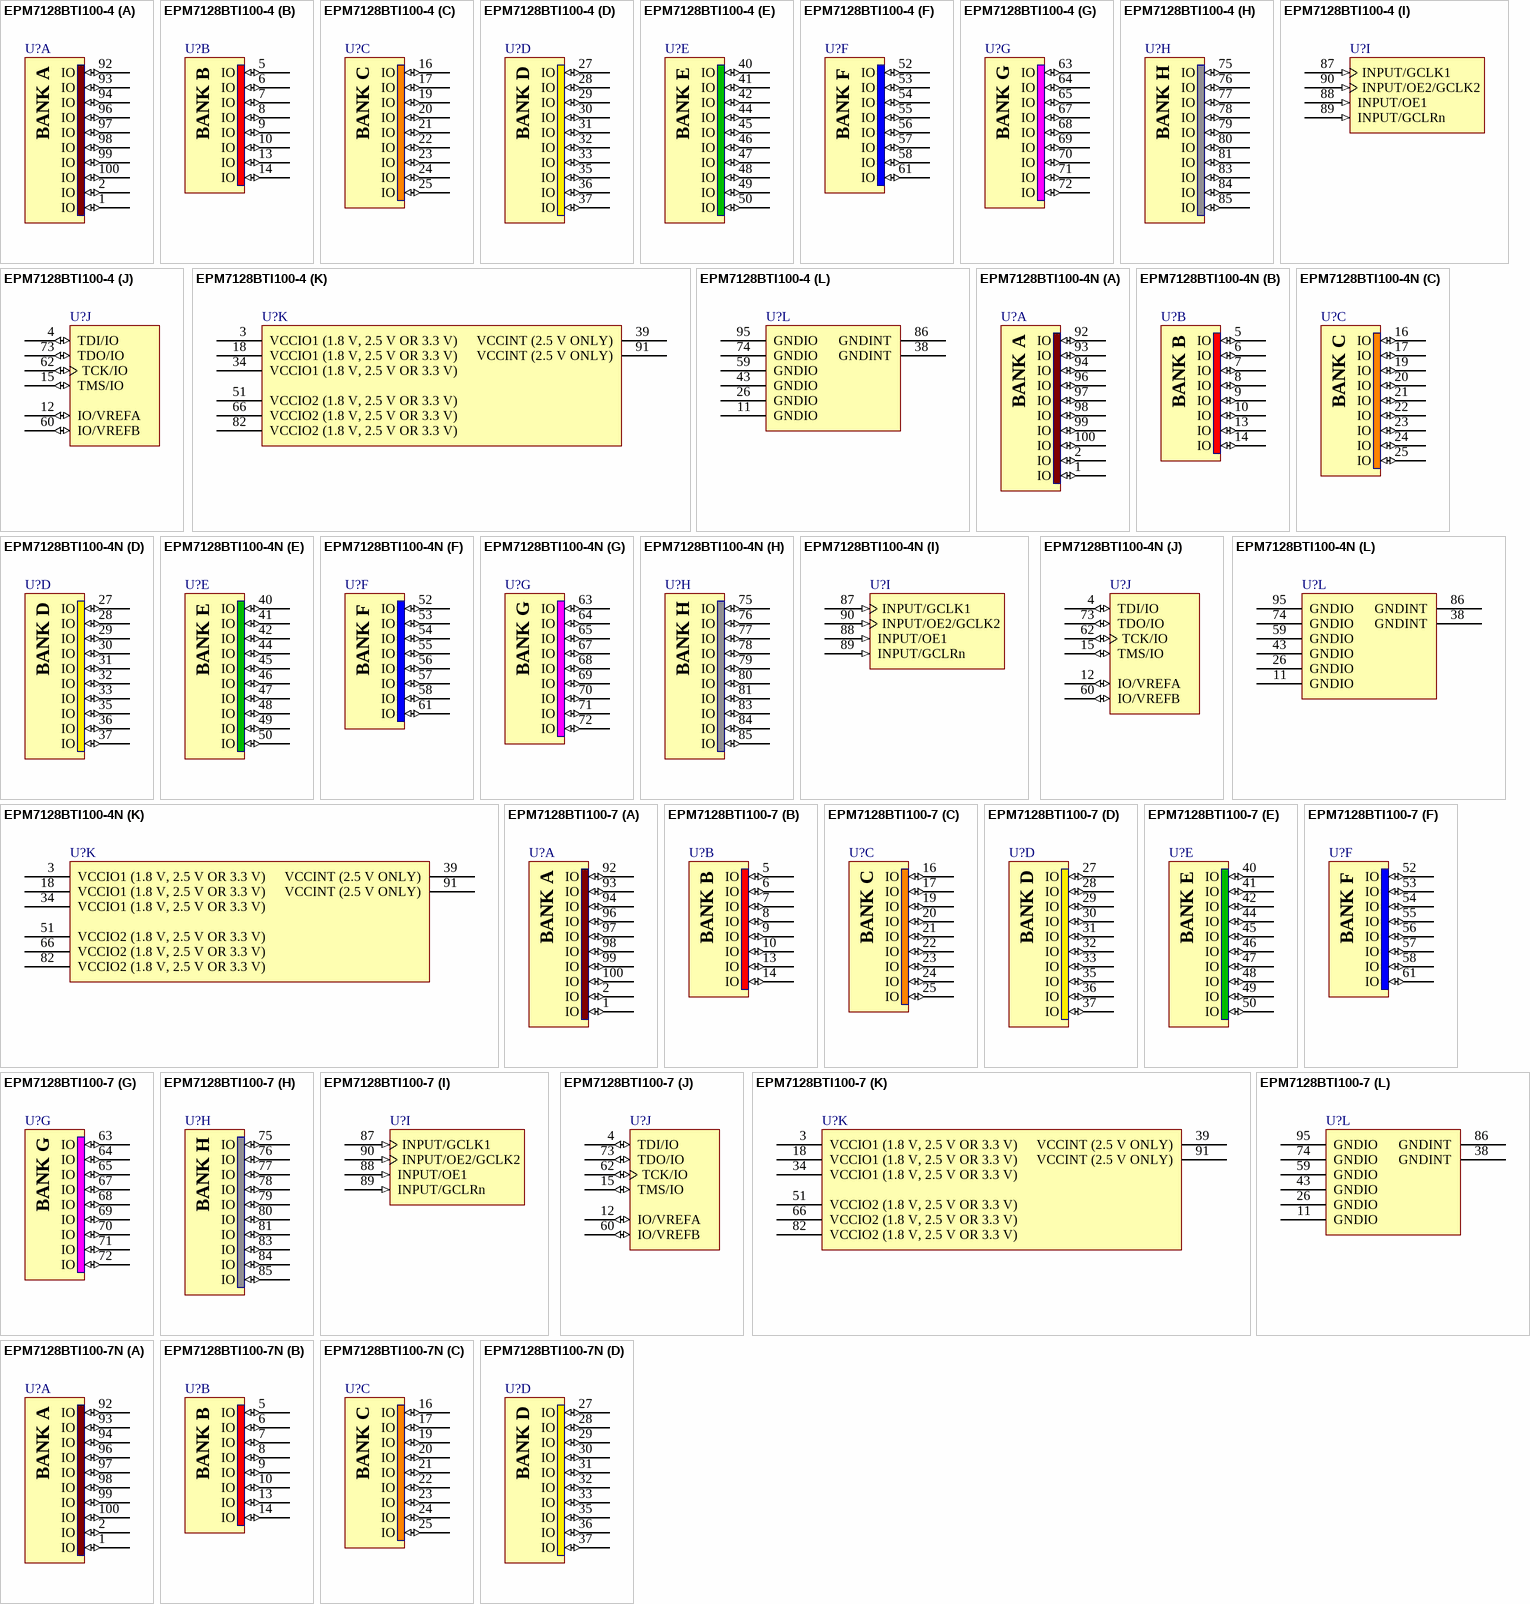
[diagram p18: symbols EPM7128BTI100-4 to EPM7128BTI100-7N]

## EPM7128BTI100-4
designator U?
Max 7000B 2.5V CPLD, 128 Macrocells, 100-Pin TQFP, Speed Grade 4, Industrial Grade; Published: 17-Sep-2003; LatestRevisionDate: 13-Apr-2006; LatestRevisionNote: IPC-7351 Footprint Added.; DatasheetVersion: ver3.5, Sep-2005; PackageVersion: ver15.1, May-2008; PackageReference: TQFP100; Publisher: Altium Limited; PackageDescription: 100-Pin Plastic Thin Quad Flat Pack (TQFP100) - Wire Bond; Code_JEDEC: MS-026-AED; ComponentLink1Description: Manufacturer Link; ComponentLink1URL: http://www.altera.com/products/devices/max7k/m7k-index.html; ComponentLink2Description: Datasheet; ComponentLink2URL: http://www.altera.com/literature/ds/m7000b.pdf; ComponentLink3Description: Packaging Specification; ComponentLink3URL: http://www.altera.com/literature/ds/dspkg.pdf
footprint TQFP100_N (Thin QFP, 100-Leads, Body 14x14mm, Pitch 0.5mm, IPC Medium Density)
footprint TQFP100_L (Thin QFP, 100-Leads, Body 14x14mm, Pitch 0.5mm, IPC High Density)
footprint TQFP100_M (Thin QFP, 100-Leads, Body 14x14mm, Pitch 0.5mm, IPC Low Density)
3D model EPM7128B-TQFP100 (100-Pin Plastic Thin Quad Flat Pack (TQFP100) - Wire Bond)
signal-integrity model 7kb (MAX 7000B)
part A pins: 1 IO (io), 2 IO (io), 92 IO (io), 93 IO (io), 94 IO (io), 96 IO (io), 97 IO (io), 98 IO (io), 99 IO (io), 100 IO (io)
part B pins: 5 IO (io), 6 IO (io), 7 IO (io), 8 IO (io), 9 IO (io), 10 IO (io), 13 IO (io), 14 IO (io)
part C pins: 16 IO (io), 17 IO (io), 19 IO (io), 20 IO (io), 21 IO (io), 22 IO (io), 23 IO (io), 24 IO (io), 25 IO (io)
part D pins: 27 IO (io), 28 IO (io), 29 IO (io), 30 IO (io), 31 IO (io), 32 IO (io), 33 IO (io), 35 IO (io), 36 IO (io), 37 IO (io)
part E pins: 40 IO (io), 41 IO (io), 42 IO (io), 44 IO (io), 45 IO (io), 46 IO (io), 47 IO (io), 48 IO (io), 49 IO (io), 50 IO (io)
part F pins: 52 IO (io), 53 IO (io), 54 IO (io), 55 IO (io), 56 IO (io), 57 IO (io), 58 IO (io), 61 IO (io)
part G pins: 63 IO (io), 64 IO (io), 65 IO (io), 67 IO (io), 68 IO (io), 69 IO (io), 70 IO (io), 71 IO (io), 72 IO (io)
part H pins: 75 IO (io), 76 IO (io), 77 IO (io), 78 IO (io), 79 IO (io), 80 IO (io), 81 IO (io), 83 IO (io), 84 IO (io), 85 IO (io)
part I pins: 87 INPUT/GCLK1 (in), 88 INPUT/OE1 (in), 89 INPUT/GCLRn (in), 90 INPUT/OE2/GCLK2 (in)
part J pins: 4 TDI/IO (io), 12 IO/VREFA (io), 15 TMS/IO (io), 60 IO/VREFB (io), 62 TCK/IO (io), 73 TDO/IO (io)
part K pins: 3 VCCIO1 (1.8 V, 2.5 V OR 3.3 V) (power), 18 VCCIO1 (1.8 V, 2.5 V OR 3.3 V) (power), 34 VCCIO1 (1.8 V, 2.5 V OR 3.3 V) (power), 39 VCCINT (2.5 V ONLY) (power), 51 VCCIO2 (1.8 V, 2.5 V OR 3.3 V) (power), 66 VCCIO2 (1.8 V, 2.5 V OR 3.3 V) (power), 82 VCCIO2 (1.8 V, 2.5 V OR 3.3 V) (power), 91 VCCINT (2.5 V ONLY) (power)
part L pins: 11 GNDIO (power), 26 GNDIO (power), 38 GNDINT (power), 43 GNDIO (power), 59 GNDIO (power), 74 GNDIO (power), 86 GNDINT (power), 95 GNDIO (power)
part A text: BANK A
part B text: BANK B
part C text: BANK C
part D text: BANK D
part E text: BANK E
part F text: BANK F
part G text: BANK G
part H text: BANK H

## EPM7128BTI100-4N
designator U?
Max 7000B 2.5V CPLD, 128 Macrocells, 100-Pin TQFP, Speed Grade 4, Industrial Grade, Pb-Free; Published: 13-Apr-2006; DatasheetVersion: ver3.5, Sep-2005; PackageVersion: ver15.1, May-2008; PackageReference: TQFP100; Publisher: Altium Limited; PackageDescription: 100-Pin Plastic Thin Quad Flat Pack (TQFP100) - Wire Bond; Code_JEDEC: MS-026-AED; ComponentLink1Description: Manufacturer Link; ComponentLink1URL: http://www.altera.com/products/devices/max7k/m7k-index.html; ComponentLink2Description: Datasheet; ComponentLink2URL: http://www.altera.com/literature/ds/m7000b.pdf; ComponentLink3Description: Packaging Specification; ComponentLink3URL: http://www.altera.com/literature/ds/dspkg.pdf
footprint TQFP100_N (Thin QFP, 100-Leads, Body 14x14mm, Pitch 0.5mm, IPC Medium Density)
footprint TQFP100_L (Thin QFP, 100-Leads, Body 14x14mm, Pitch 0.5mm, IPC High Density)
footprint TQFP100_M (Thin QFP, 100-Leads, Body 14x14mm, Pitch 0.5mm, IPC Low Density)
3D model EPM7128B-TQFP100 (100-Pin Plastic Thin Quad Flat Pack (TQFP100) - Wire Bond)
signal-integrity model 7kb (MAX 7000B)
part A pins: 1 IO (io), 2 IO (io), 92 IO (io), 93 IO (io), 94 IO (io), 96 IO (io), 97 IO (io), 98 IO (io), 99 IO (io), 100 IO (io)
part B pins: 5 IO (io), 6 IO (io), 7 IO (io), 8 IO (io), 9 IO (io), 10 IO (io), 13 IO (io), 14 IO (io)
part C pins: 16 IO (io), 17 IO (io), 19 IO (io), 20 IO (io), 21 IO (io), 22 IO (io), 23 IO (io), 24 IO (io), 25 IO (io)
part D pins: 27 IO (io), 28 IO (io), 29 IO (io), 30 IO (io), 31 IO (io), 32 IO (io), 33 IO (io), 35 IO (io), 36 IO (io), 37 IO (io)
part E pins: 40 IO (io), 41 IO (io), 42 IO (io), 44 IO (io), 45 IO (io), 46 IO (io), 47 IO (io), 48 IO (io), 49 IO (io), 50 IO (io)
part F pins: 52 IO (io), 53 IO (io), 54 IO (io), 55 IO (io), 56 IO (io), 57 IO (io), 58 IO (io), 61 IO (io)
part G pins: 63 IO (io), 64 IO (io), 65 IO (io), 67 IO (io), 68 IO (io), 69 IO (io), 70 IO (io), 71 IO (io), 72 IO (io)
part H pins: 75 IO (io), 76 IO (io), 77 IO (io), 78 IO (io), 79 IO (io), 80 IO (io), 81 IO (io), 83 IO (io), 84 IO (io), 85 IO (io)
part I pins: 87 INPUT/GCLK1 (in), 88 INPUT/OE1 (in), 89 INPUT/GCLRn (in), 90 INPUT/OE2/GCLK2 (in)
part J pins: 4 TDI/IO (io), 12 IO/VREFA (io), 15 TMS/IO (io), 60 IO/VREFB (io), 62 TCK/IO (io), 73 TDO/IO (io)
part K pins: 3 VCCIO1 (1.8 V, 2.5 V OR 3.3 V) (power), 18 VCCIO1 (1.8 V, 2.5 V OR 3.3 V) (power), 34 VCCIO1 (1.8 V, 2.5 V OR 3.3 V) (power), 39 VCCINT (2.5 V ONLY) (power), 51 VCCIO2 (1.8 V, 2.5 V OR 3.3 V) (power), 66 VCCIO2 (1.8 V, 2.5 V OR 3.3 V) (power), 82 VCCIO2 (1.8 V, 2.5 V OR 3.3 V) (power), 91 VCCINT (2.5 V ONLY) (power)
part L pins: 11 GNDIO (power), 26 GNDIO (power), 38 GNDINT (power), 43 GNDIO (power), 59 GNDIO (power), 74 GNDIO (power), 86 GNDINT (power), 95 GNDIO (power)
part A text: BANK A
part B text: BANK B
part C text: BANK C
part D text: BANK D
part E text: BANK E
part F text: BANK F
part G text: BANK G
part H text: BANK H

## EPM7128BTI100-7
designator U?
Max 7000B 2.5V CPLD, 128 Macrocells, 100-Pin TQFP, Speed Grade 7, Industrial Grade; Published: 17-Sep-2003; LatestRevisionDate: 13-Apr-2006; LatestRevisionNote: IPC-7351 Footprint Added.; DatasheetVersion: ver3.5, Sep-2005; PackageVersion: ver15.1, May-2008; PackageReference: TQFP100; Publisher: Altium Limited; PackageDescription: 100-Pin Plastic Thin Quad Flat Pack (TQFP100) - Wire Bond; Code_JEDEC: MS-026-AED; ComponentLink1Description: Manufacturer Link; ComponentLink1URL: http://www.altera.com/products/devices/max7k/m7k-index.html; ComponentLink2Description: Datasheet; ComponentLink2URL: http://www.altera.com/literature/ds/m7000b.pdf; ComponentLink3Description: Packaging Specification; ComponentLink3URL: http://www.altera.com/literature/ds/dspkg.pdf
footprint TQFP100_N (Thin QFP, 100-Leads, Body 14x14mm, Pitch 0.5mm, IPC Medium Density)
footprint TQFP100_L (Thin QFP, 100-Leads, Body 14x14mm, Pitch 0.5mm, IPC High Density)
footprint TQFP100_M (Thin QFP, 100-Leads, Body 14x14mm, Pitch 0.5mm, IPC Low Density)
3D model EPM7128B-TQFP100 (100-Pin Plastic Thin Quad Flat Pack (TQFP100) - Wire Bond)
signal-integrity model 7kb (MAX 7000B)
part A pins: 1 IO (io), 2 IO (io), 92 IO (io), 93 IO (io), 94 IO (io), 96 IO (io), 97 IO (io), 98 IO (io), 99 IO (io), 100 IO (io)
part B pins: 5 IO (io), 6 IO (io), 7 IO (io), 8 IO (io), 9 IO (io), 10 IO (io), 13 IO (io), 14 IO (io)
part C pins: 16 IO (io), 17 IO (io), 19 IO (io), 20 IO (io), 21 IO (io), 22 IO (io), 23 IO (io), 24 IO (io), 25 IO (io)
part D pins: 27 IO (io), 28 IO (io), 29 IO (io), 30 IO (io), 31 IO (io), 32 IO (io), 33 IO (io), 35 IO (io), 36 IO (io), 37 IO (io)
part E pins: 40 IO (io), 41 IO (io), 42 IO (io), 44 IO (io), 45 IO (io), 46 IO (io), 47 IO (io), 48 IO (io), 49 IO (io), 50 IO (io)
part F pins: 52 IO (io), 53 IO (io), 54 IO (io), 55 IO (io), 56 IO (io), 57 IO (io), 58 IO (io), 61 IO (io)
part G pins: 63 IO (io), 64 IO (io), 65 IO (io), 67 IO (io), 68 IO (io), 69 IO (io), 70 IO (io), 71 IO (io), 72 IO (io)
part H pins: 75 IO (io), 76 IO (io), 77 IO (io), 78 IO (io), 79 IO (io), 80 IO (io), 81 IO (io), 83 IO (io), 84 IO (io), 85 IO (io)
part I pins: 87 INPUT/GCLK1 (in), 88 INPUT/OE1 (in), 89 INPUT/GCLRn (in), 90 INPUT/OE2/GCLK2 (in)
part J pins: 4 TDI/IO (io), 12 IO/VREFA (io), 15 TMS/IO (io), 60 IO/VREFB (io), 62 TCK/IO (io), 73 TDO/IO (io)
part K pins: 3 VCCIO1 (1.8 V, 2.5 V OR 3.3 V) (power), 18 VCCIO1 (1.8 V, 2.5 V OR 3.3 V) (power), 34 VCCIO1 (1.8 V, 2.5 V OR 3.3 V) (power), 39 VCCINT (2.5 V ONLY) (power), 51 VCCIO2 (1.8 V, 2.5 V OR 3.3 V) (power), 66 VCCIO2 (1.8 V, 2.5 V OR 3.3 V) (power), 82 VCCIO2 (1.8 V, 2.5 V OR 3.3 V) (power), 91 VCCINT (2.5 V ONLY) (power)
part L pins: 11 GNDIO (power), 26 GNDIO (power), 38 GNDINT (power), 43 GNDIO (power), 59 GNDIO (power), 74 GNDIO (power), 86 GNDINT (power), 95 GNDIO (power)
part A text: BANK A
part B text: BANK B
part C text: BANK C
part D text: BANK D
part E text: BANK E
part F text: BANK F
part G text: BANK G
part H text: BANK H

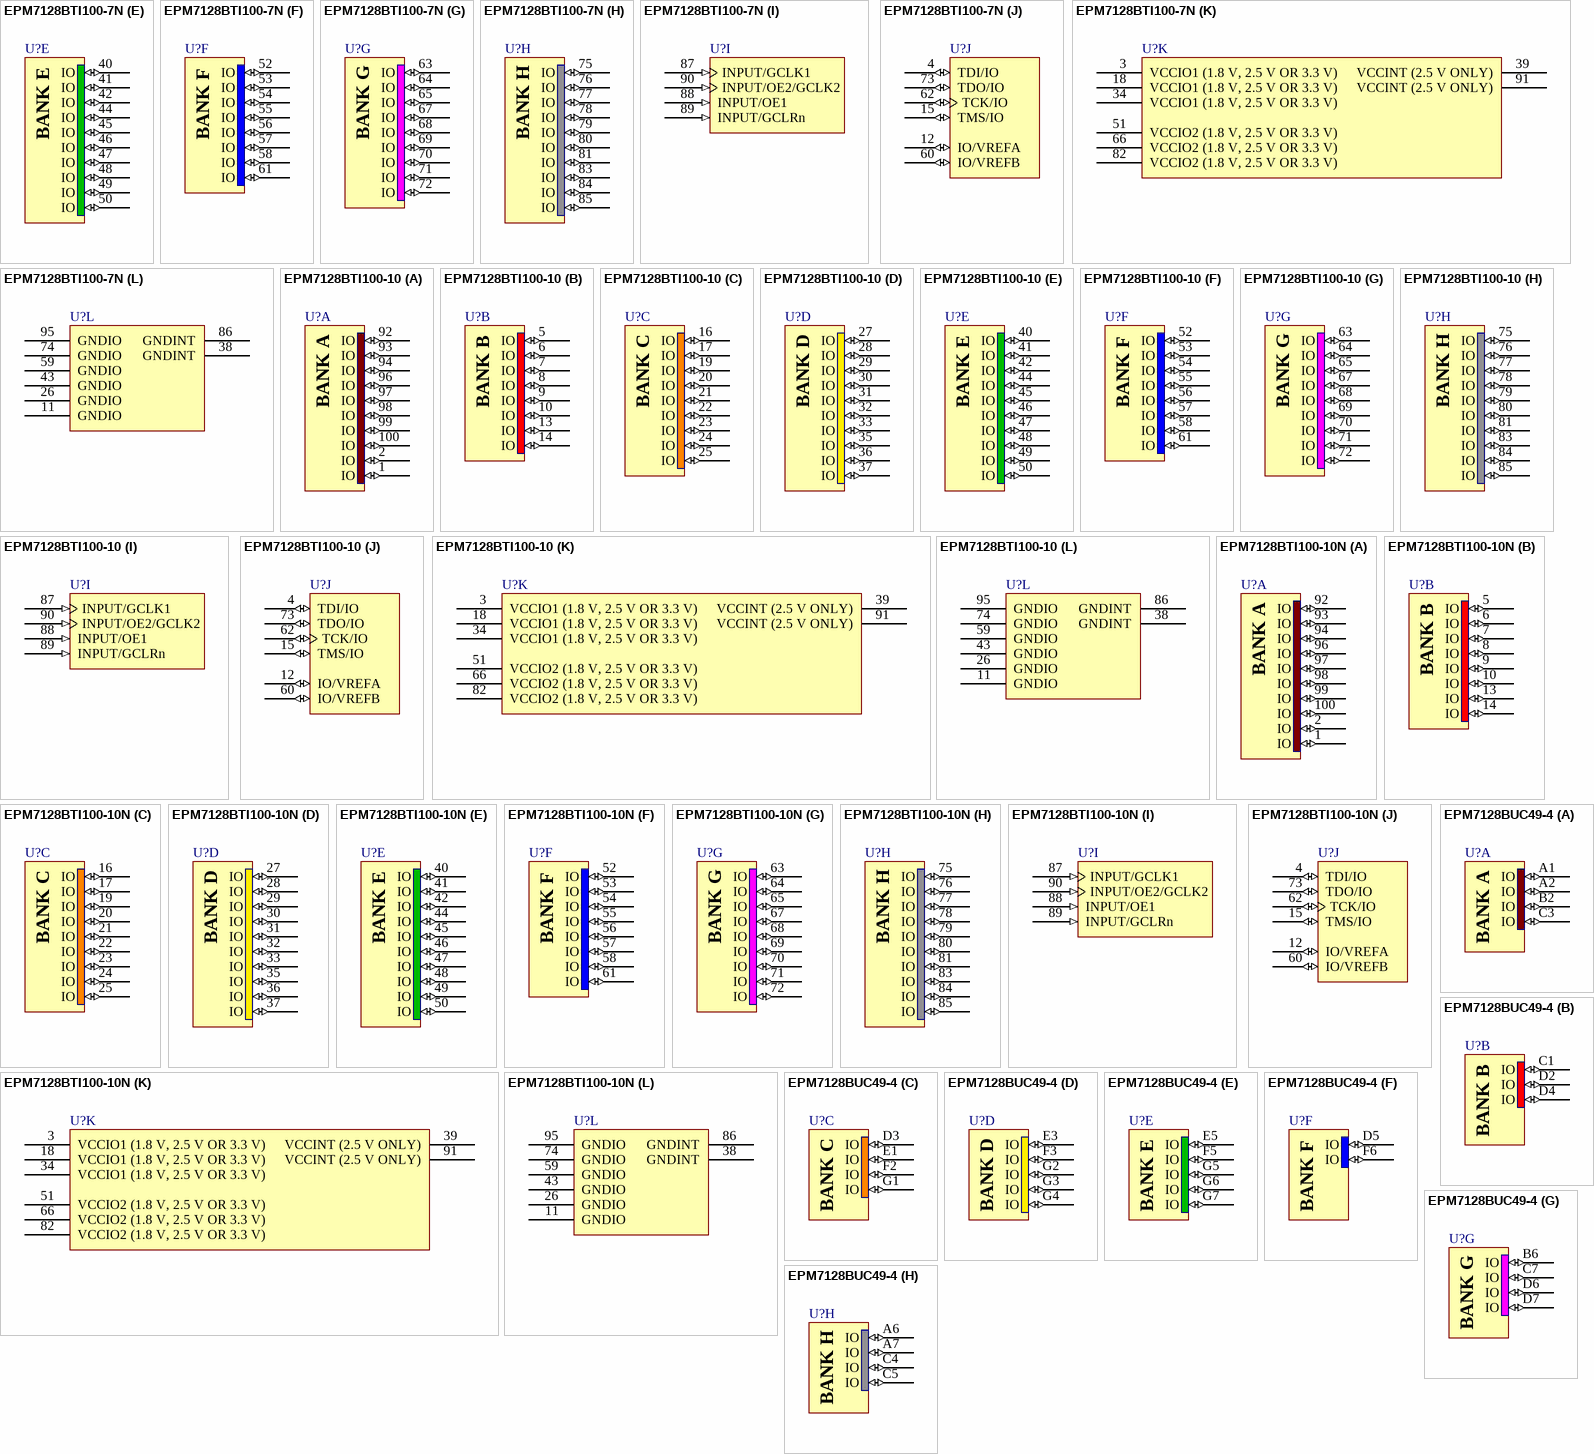
[diagram p19: symbols EPM7128BTI100-7N to EPM7128BUC49-4]

## EPM7128BTI100-7N
designator U?
Max 7000B 2.5V CPLD, 128 Macrocells, 100-Pin TQFP, Speed Grade 7, Industrial Grade, Pb-Free; Published: 13-Apr-2006; DatasheetVersion: ver3.5, Sep-2005; PackageVersion: ver15.1, May-2008; PackageReference: TQFP100; Publisher: Altium Limited; PackageDescription: 100-Pin Plastic Thin Quad Flat Pack (TQFP100) - Wire Bond; Code_JEDEC: MS-026-AED; ComponentLink1Description: Manufacturer Link; ComponentLink1URL: http://www.altera.com/products/devices/max7k/m7k-index.html; ComponentLink2Description: Datasheet; ComponentLink2URL: http://www.altera.com/literature/ds/m7000b.pdf; ComponentLink3Description: Packaging Specification; ComponentLink3URL: http://www.altera.com/literature/ds/dspkg.pdf
footprint TQFP100_N (Thin QFP, 100-Leads, Body 14x14mm, Pitch 0.5mm, IPC Medium Density)
footprint TQFP100_L (Thin QFP, 100-Leads, Body 14x14mm, Pitch 0.5mm, IPC High Density)
footprint TQFP100_M (Thin QFP, 100-Leads, Body 14x14mm, Pitch 0.5mm, IPC Low Density)
3D model EPM7128B-TQFP100 (100-Pin Plastic Thin Quad Flat Pack (TQFP100) - Wire Bond)
signal-integrity model 7kb (MAX 7000B)
part A pins: 1 IO (io), 2 IO (io), 92 IO (io), 93 IO (io), 94 IO (io), 96 IO (io), 97 IO (io), 98 IO (io), 99 IO (io), 100 IO (io)
part B pins: 5 IO (io), 6 IO (io), 7 IO (io), 8 IO (io), 9 IO (io), 10 IO (io), 13 IO (io), 14 IO (io)
part C pins: 16 IO (io), 17 IO (io), 19 IO (io), 20 IO (io), 21 IO (io), 22 IO (io), 23 IO (io), 24 IO (io), 25 IO (io)
part D pins: 27 IO (io), 28 IO (io), 29 IO (io), 30 IO (io), 31 IO (io), 32 IO (io), 33 IO (io), 35 IO (io), 36 IO (io), 37 IO (io)
part E pins: 40 IO (io), 41 IO (io), 42 IO (io), 44 IO (io), 45 IO (io), 46 IO (io), 47 IO (io), 48 IO (io), 49 IO (io), 50 IO (io)
part F pins: 52 IO (io), 53 IO (io), 54 IO (io), 55 IO (io), 56 IO (io), 57 IO (io), 58 IO (io), 61 IO (io)
part G pins: 63 IO (io), 64 IO (io), 65 IO (io), 67 IO (io), 68 IO (io), 69 IO (io), 70 IO (io), 71 IO (io), 72 IO (io)
part H pins: 75 IO (io), 76 IO (io), 77 IO (io), 78 IO (io), 79 IO (io), 80 IO (io), 81 IO (io), 83 IO (io), 84 IO (io), 85 IO (io)
part I pins: 87 INPUT/GCLK1 (in), 88 INPUT/OE1 (in), 89 INPUT/GCLRn (in), 90 INPUT/OE2/GCLK2 (in)
part J pins: 4 TDI/IO (io), 12 IO/VREFA (io), 15 TMS/IO (io), 60 IO/VREFB (io), 62 TCK/IO (io), 73 TDO/IO (io)
part K pins: 3 VCCIO1 (1.8 V, 2.5 V OR 3.3 V) (power), 18 VCCIO1 (1.8 V, 2.5 V OR 3.3 V) (power), 34 VCCIO1 (1.8 V, 2.5 V OR 3.3 V) (power), 39 VCCINT (2.5 V ONLY) (power), 51 VCCIO2 (1.8 V, 2.5 V OR 3.3 V) (power), 66 VCCIO2 (1.8 V, 2.5 V OR 3.3 V) (power), 82 VCCIO2 (1.8 V, 2.5 V OR 3.3 V) (power), 91 VCCINT (2.5 V ONLY) (power)
part L pins: 11 GNDIO (power), 26 GNDIO (power), 38 GNDINT (power), 43 GNDIO (power), 59 GNDIO (power), 74 GNDIO (power), 86 GNDINT (power), 95 GNDIO (power)
part A text: BANK A
part B text: BANK B
part C text: BANK C
part D text: BANK D
part E text: BANK E
part F text: BANK F
part G text: BANK G
part H text: BANK H

## EPM7128BTI100-10
designator U?
Max 7000B 2.5V CPLD, 128 Macrocells, 100-Pin TQFP, Speed Grade 10, Industrial Grade; Published: 17-Sep-2003; LatestRevisionDate: 13-Apr-2006; LatestRevisionNote: IPC-7351 Footprint Added.; DatasheetVersion: ver3.5, Sep-2005; PackageVersion: ver15.1, May-2008; PackageReference: TQFP100; Publisher: Altium Limited; PackageDescription: 100-Pin Plastic Thin Quad Flat Pack (TQFP100) - Wire Bond; Code_JEDEC: MS-026-AED; ComponentLink1Description: Manufacturer Link; ComponentLink1URL: http://www.altera.com/products/devices/max7k/m7k-index.html; ComponentLink2Description: Datasheet; ComponentLink2URL: http://www.altera.com/literature/ds/m7000b.pdf; ComponentLink3Description: Packaging Specification; ComponentLink3URL: http://www.altera.com/literature/ds/dspkg.pdf
footprint TQFP100_N (Thin QFP, 100-Leads, Body 14x14mm, Pitch 0.5mm, IPC Medium Density)
footprint TQFP100_L (Thin QFP, 100-Leads, Body 14x14mm, Pitch 0.5mm, IPC High Density)
footprint TQFP100_M (Thin QFP, 100-Leads, Body 14x14mm, Pitch 0.5mm, IPC Low Density)
3D model EPM7128B-TQFP100 (100-Pin Plastic Thin Quad Flat Pack (TQFP100) - Wire Bond)
signal-integrity model 7kb (MAX 7000B)
part A pins: 1 IO (io), 2 IO (io), 92 IO (io), 93 IO (io), 94 IO (io), 96 IO (io), 97 IO (io), 98 IO (io), 99 IO (io), 100 IO (io)
part B pins: 5 IO (io), 6 IO (io), 7 IO (io), 8 IO (io), 9 IO (io), 10 IO (io), 13 IO (io), 14 IO (io)
part C pins: 16 IO (io), 17 IO (io), 19 IO (io), 20 IO (io), 21 IO (io), 22 IO (io), 23 IO (io), 24 IO (io), 25 IO (io)
part D pins: 27 IO (io), 28 IO (io), 29 IO (io), 30 IO (io), 31 IO (io), 32 IO (io), 33 IO (io), 35 IO (io), 36 IO (io), 37 IO (io)
part E pins: 40 IO (io), 41 IO (io), 42 IO (io), 44 IO (io), 45 IO (io), 46 IO (io), 47 IO (io), 48 IO (io), 49 IO (io), 50 IO (io)
part F pins: 52 IO (io), 53 IO (io), 54 IO (io), 55 IO (io), 56 IO (io), 57 IO (io), 58 IO (io), 61 IO (io)
part G pins: 63 IO (io), 64 IO (io), 65 IO (io), 67 IO (io), 68 IO (io), 69 IO (io), 70 IO (io), 71 IO (io), 72 IO (io)
part H pins: 75 IO (io), 76 IO (io), 77 IO (io), 78 IO (io), 79 IO (io), 80 IO (io), 81 IO (io), 83 IO (io), 84 IO (io), 85 IO (io)
part I pins: 87 INPUT/GCLK1 (in), 88 INPUT/OE1 (in), 89 INPUT/GCLRn (in), 90 INPUT/OE2/GCLK2 (in)
part J pins: 4 TDI/IO (io), 12 IO/VREFA (io), 15 TMS/IO (io), 60 IO/VREFB (io), 62 TCK/IO (io), 73 TDO/IO (io)
part K pins: 3 VCCIO1 (1.8 V, 2.5 V OR 3.3 V) (power), 18 VCCIO1 (1.8 V, 2.5 V OR 3.3 V) (power), 34 VCCIO1 (1.8 V, 2.5 V OR 3.3 V) (power), 39 VCCINT (2.5 V ONLY) (power), 51 VCCIO2 (1.8 V, 2.5 V OR 3.3 V) (power), 66 VCCIO2 (1.8 V, 2.5 V OR 3.3 V) (power), 82 VCCIO2 (1.8 V, 2.5 V OR 3.3 V) (power), 91 VCCINT (2.5 V ONLY) (power)
part L pins: 11 GNDIO (power), 26 GNDIO (power), 38 GNDINT (power), 43 GNDIO (power), 59 GNDIO (power), 74 GNDIO (power), 86 GNDINT (power), 95 GNDIO (power)
part A text: BANK A
part B text: BANK B
part C text: BANK C
part D text: BANK D
part E text: BANK E
part F text: BANK F
part G text: BANK G
part H text: BANK H

## EPM7128BTI100-10N
designator U?
Max 7000B 2.5V CPLD, 128 Macrocells, 100-Pin TQFP, Speed Grade 10, Industrial Grade, Pb-Free; Published: 13-Apr-2006; DatasheetVersion: ver3.5, Sep-2005; PackageVersion: ver15.1, May-2008; PackageReference: TQFP100; Publisher: Altium Limited; PackageDescription: 100-Pin Plastic Thin Quad Flat Pack (TQFP100) - Wire Bond; Code_JEDEC: MS-026-AED; ComponentLink1Description: Manufacturer Link; ComponentLink1URL: http://www.altera.com/products/devices/max7k/m7k-index.html; ComponentLink2Description: Datasheet; ComponentLink2URL: http://www.altera.com/literature/ds/m7000b.pdf; ComponentLink3Description: Packaging Specification; ComponentLink3URL: http://www.altera.com/literature/ds/dspkg.pdf
footprint TQFP100_N (Thin QFP, 100-Leads, Body 14x14mm, Pitch 0.5mm, IPC Medium Density)
footprint TQFP100_L (Thin QFP, 100-Leads, Body 14x14mm, Pitch 0.5mm, IPC High Density)
footprint TQFP100_M (Thin QFP, 100-Leads, Body 14x14mm, Pitch 0.5mm, IPC Low Density)
3D model EPM7128B-TQFP100 (100-Pin Plastic Thin Quad Flat Pack (TQFP100) - Wire Bond)
signal-integrity model 7kb (MAX 7000B)
part A pins: 1 IO (io), 2 IO (io), 92 IO (io), 93 IO (io), 94 IO (io), 96 IO (io), 97 IO (io), 98 IO (io), 99 IO (io), 100 IO (io)
part B pins: 5 IO (io), 6 IO (io), 7 IO (io), 8 IO (io), 9 IO (io), 10 IO (io), 13 IO (io), 14 IO (io)
part C pins: 16 IO (io), 17 IO (io), 19 IO (io), 20 IO (io), 21 IO (io), 22 IO (io), 23 IO (io), 24 IO (io), 25 IO (io)
part D pins: 27 IO (io), 28 IO (io), 29 IO (io), 30 IO (io), 31 IO (io), 32 IO (io), 33 IO (io), 35 IO (io), 36 IO (io), 37 IO (io)
part E pins: 40 IO (io), 41 IO (io), 42 IO (io), 44 IO (io), 45 IO (io), 46 IO (io), 47 IO (io), 48 IO (io), 49 IO (io), 50 IO (io)
part F pins: 52 IO (io), 53 IO (io), 54 IO (io), 55 IO (io), 56 IO (io), 57 IO (io), 58 IO (io), 61 IO (io)
part G pins: 63 IO (io), 64 IO (io), 65 IO (io), 67 IO (io), 68 IO (io), 69 IO (io), 70 IO (io), 71 IO (io), 72 IO (io)
part H pins: 75 IO (io), 76 IO (io), 77 IO (io), 78 IO (io), 79 IO (io), 80 IO (io), 81 IO (io), 83 IO (io), 84 IO (io), 85 IO (io)
part I pins: 87 INPUT/GCLK1 (in), 88 INPUT/OE1 (in), 89 INPUT/GCLRn (in), 90 INPUT/OE2/GCLK2 (in)
part J pins: 4 TDI/IO (io), 12 IO/VREFA (io), 15 TMS/IO (io), 60 IO/VREFB (io), 62 TCK/IO (io), 73 TDO/IO (io)
part K pins: 3 VCCIO1 (1.8 V, 2.5 V OR 3.3 V) (power), 18 VCCIO1 (1.8 V, 2.5 V OR 3.3 V) (power), 34 VCCIO1 (1.8 V, 2.5 V OR 3.3 V) (power), 39 VCCINT (2.5 V ONLY) (power), 51 VCCIO2 (1.8 V, 2.5 V OR 3.3 V) (power), 66 VCCIO2 (1.8 V, 2.5 V OR 3.3 V) (power), 82 VCCIO2 (1.8 V, 2.5 V OR 3.3 V) (power), 91 VCCINT (2.5 V ONLY) (power)
part L pins: 11 GNDIO (power), 26 GNDIO (power), 38 GNDINT (power), 43 GNDIO (power), 59 GNDIO (power), 74 GNDIO (power), 86 GNDINT (power), 95 GNDIO (power)
part A text: BANK A
part B text: BANK B
part C text: BANK C
part D text: BANK D
part E text: BANK E
part F text: BANK F
part G text: BANK G
part H text: BANK H

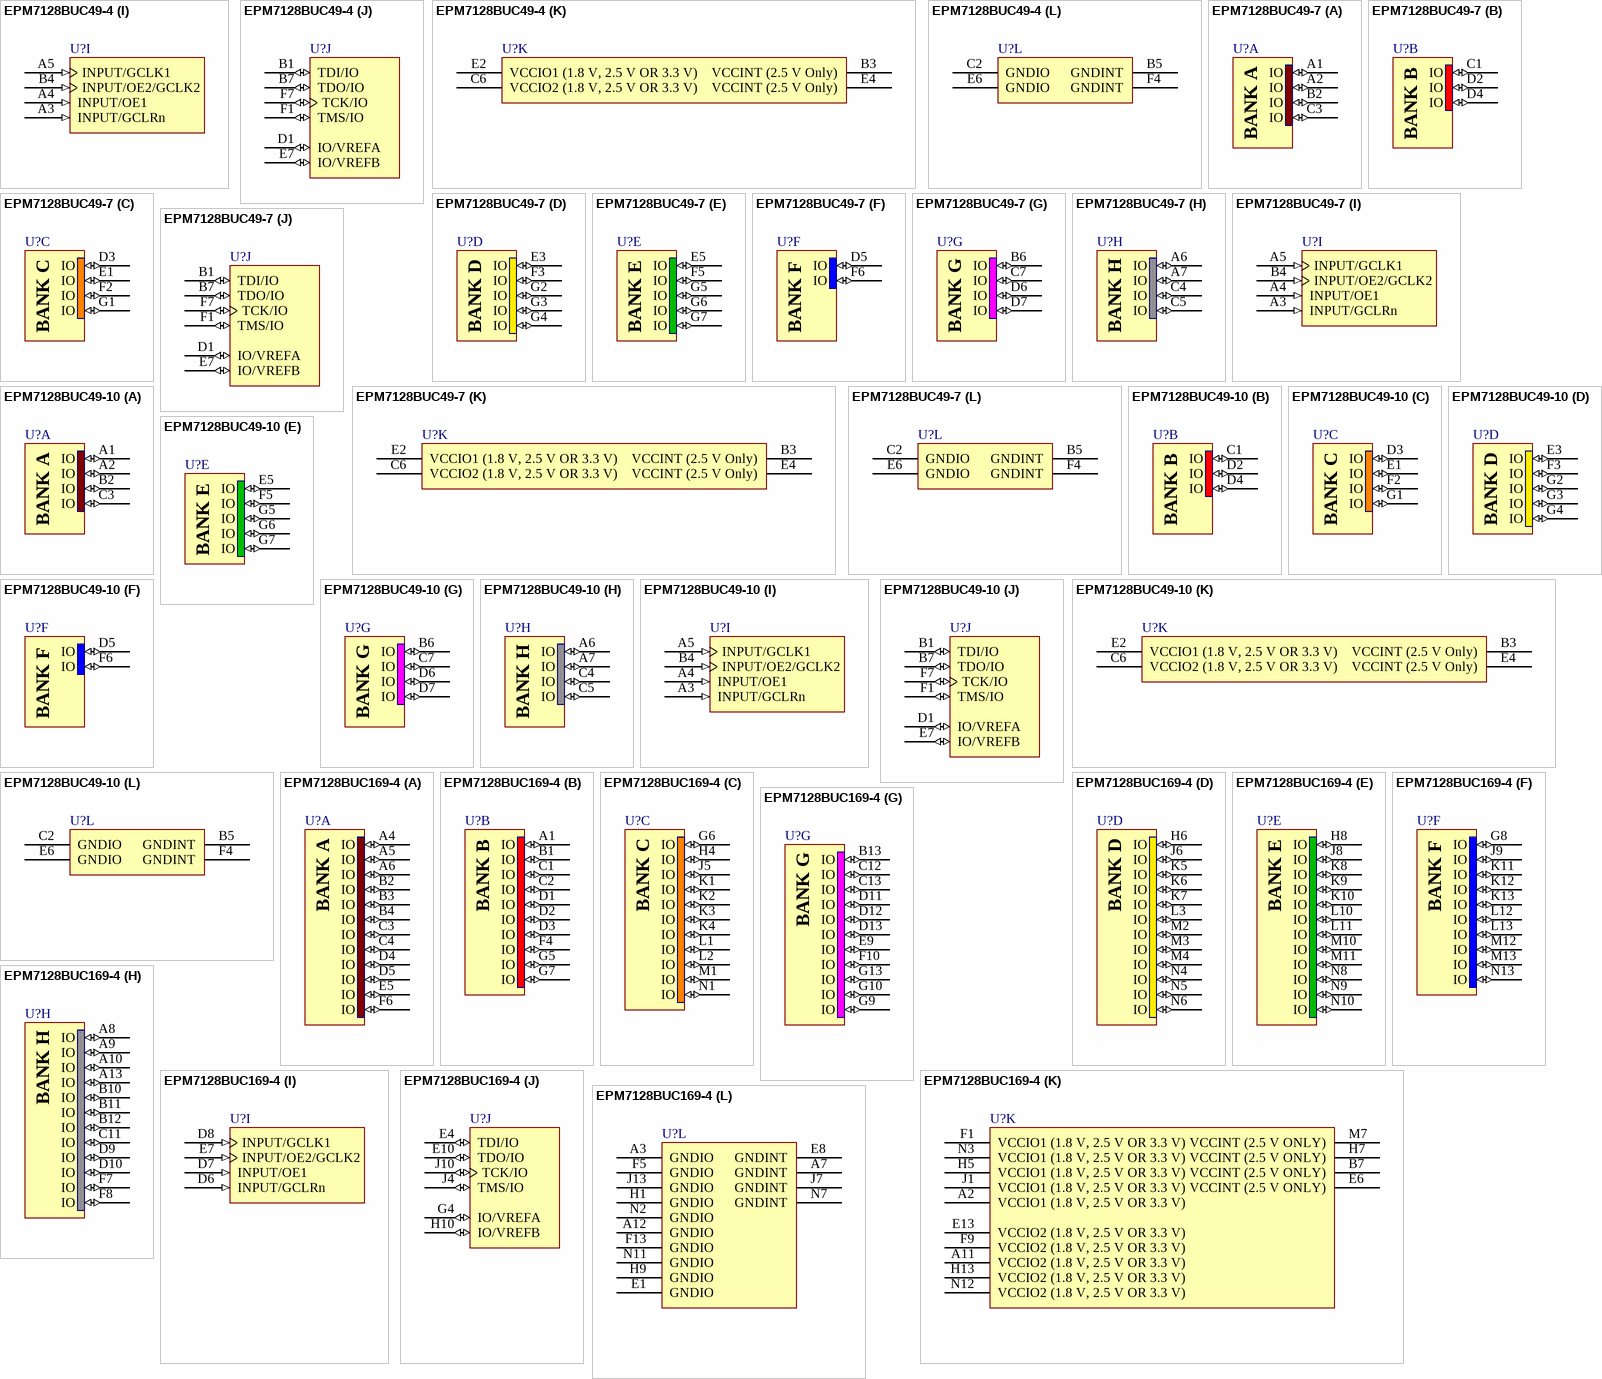
[diagram p20: symbols EPM7128BUC49-4 to EPM7128BUC169-4]

## EPM7128BUC49-4
designator U?
Max 7000B 2.5V CPLD, 128 Macrocells, 49-Pin UFBGA, Speed Grade 4, Commercial Grade; ComponentAvailability: Discontinued 2004; Published: 17-Sep-2003; LatestRevisionDate: 13-Apr-2006; LatestRevisionNote: IPC-7351 Footprint Added.; DatasheetVersion: ver3.5, Sep-2005; PackageVersion: ver15.4, Dec-2008; PackageReference: UBGA49; Publisher: Altium Limited; PackageDescription: 49-Ball Ultra FineLine Ball Grid Array (UBGA49) - Wire Bond; Code_JEDEC: MO-216-BAB-2; ComponentLink1Description: Manufacturer Link; ComponentLink1URL: http://www.altera.com/products/devices/max7k/m7k-index.html; ComponentLink2Description: Datasheet; ComponentLink2URL: http://www.altera.com/literature/ds/m7000b.pdf; ComponentLink3Description: Packaging Specification; ComponentLink3URL: http://www.altera.com/literature/ds/dspkg.pdf; ComponentLink4Description: Discontinuation Notice; ComponentLink4URL: http://www.altera.com/literature/pcn/pdn0203.pdf
footprint UBGA49 (BGA, 49-Leads, Body 7x7mm, Pitch 0.8mm)
3D model EPM7128B-UBGA49 (49-Ball Ultra FineLine Ball Grid Array (UBGA49) - Wire Bond)
signal-integrity model 7kb (MAX 7000B)
part A pins: A1 IO (io), A2 IO (io), B2 IO (io), C3 IO (io)
part B pins: C1 IO (io), D2 IO (io), D4 IO (io)
part C pins: D3 IO (io), E1 IO (io), F2 IO (io), G1 IO (io)
part D pins: E3 IO (io), F3 IO (io), G2 IO (io), G3 IO (io), G4 IO (io)
part E pins: E5 IO (io), F5 IO (io), G5 IO (io), G6 IO (io), G7 IO (io)
part F pins: D5 IO (io), F6 IO (io)
part G pins: B6 IO (io), C7 IO (io), D6 IO (io), D7 IO (io)
part H pins: A6 IO (io), A7 IO (io), C4 IO (io), C5 IO (io)
part I pins: A3 INPUT/GCLRn (in), A4 INPUT/OE1 (in), A5 INPUT/GCLK1 (in), B4 INPUT/OE2/GCLK2 (in)
part J pins: B1 TDI/IO (io), B7 TDO/IO (io), D1 IO/VREFA (io), E7 IO/VREFB (io), F1 TMS/IO (io), F7 TCK/IO (io)
part K pins: B3 VCCINT (2.5 V Only) (power), C6 VCCIO2 (1.8 V, 2.5 V OR 3.3 V) (power), E2 VCCIO1 (1.8 V, 2.5 V OR 3.3 V) (power), E4 VCCINT (2.5 V Only) (power)
part L pins: B5 GNDINT (power), C2 GNDIO (power), E6 GNDIO (power), F4 GNDINT (power)
part A text: BANK A
part B text: BANK B
part C text: BANK C
part D text: BANK D
part E text: BANK E
part F text: BANK F
part G text: BANK G
part H text: BANK H

## EPM7128BUC49-7
designator U?
Max 7000B 2.5V CPLD, 128 Macrocells, 49-Pin UFBGA, Speed Grade 7, Commercial Grade; ComponentAvailability: Discontinued 2004; Published: 17-Sep-2003; LatestRevisionDate: 13-Apr-2006; LatestRevisionNote: IPC-7351 Footprint Added.; DatasheetVersion: ver3.5, Sep-2005; PackageVersion: ver15.4, Dec-2008; PackageReference: UBGA49; Publisher: Altium Limited; PackageDescription: 49-Ball Ultra FineLine Ball Grid Array (UBGA49) - Wire Bond; Code_JEDEC: MO-216-BAB-2; ComponentLink1Description: Manufacturer Link; ComponentLink1URL: http://www.altera.com/products/devices/max7k/m7k-index.html; ComponentLink2Description: Datasheet; ComponentLink2URL: http://www.altera.com/literature/ds/m7000b.pdf; ComponentLink3Description: Packaging Specification; ComponentLink3URL: http://www.altera.com/literature/ds/dspkg.pdf; ComponentLink4Description: Discontinuation Notice; ComponentLink4URL: http://www.altera.com/literature/pcn/pdn0203.pdf
footprint UBGA49 (BGA, 49-Leads, Body 7x7mm, Pitch 0.8mm)
3D model EPM7128B-UBGA49 (49-Ball Ultra FineLine Ball Grid Array (UBGA49) - Wire Bond)
signal-integrity model 7kb (MAX 7000B)
part A pins: A1 IO (io), A2 IO (io), B2 IO (io), C3 IO (io)
part B pins: C1 IO (io), D2 IO (io), D4 IO (io)
part C pins: D3 IO (io), E1 IO (io), F2 IO (io), G1 IO (io)
part D pins: E3 IO (io), F3 IO (io), G2 IO (io), G3 IO (io), G4 IO (io)
part E pins: E5 IO (io), F5 IO (io), G5 IO (io), G6 IO (io), G7 IO (io)
part F pins: D5 IO (io), F6 IO (io)
part G pins: B6 IO (io), C7 IO (io), D6 IO (io), D7 IO (io)
part H pins: A6 IO (io), A7 IO (io), C4 IO (io), C5 IO (io)
part I pins: A3 INPUT/GCLRn (in), A4 INPUT/OE1 (in), A5 INPUT/GCLK1 (in), B4 INPUT/OE2/GCLK2 (in)
part J pins: B1 TDI/IO (io), B7 TDO/IO (io), D1 IO/VREFA (io), E7 IO/VREFB (io), F1 TMS/IO (io), F7 TCK/IO (io)
part K pins: B3 VCCINT (2.5 V Only) (power), C6 VCCIO2 (1.8 V, 2.5 V OR 3.3 V) (power), E2 VCCIO1 (1.8 V, 2.5 V OR 3.3 V) (power), E4 VCCINT (2.5 V Only) (power)
part L pins: B5 GNDINT (power), C2 GNDIO (power), E6 GNDIO (power), F4 GNDINT (power)
part A text: BANK A
part B text: BANK B
part C text: BANK C
part D text: BANK D
part E text: BANK E
part F text: BANK F
part G text: BANK G
part H text: BANK H

## EPM7128BUC49-10
designator U?
Max 7000B 2.5V CPLD, 128 Macrocells, 49-Pin UFBGA, Speed Grade 10, Commercial Grade; ComponentAvailability: Discontinued 2004; Published: 17-Sep-2003; LatestRevisionDate: 13-Apr-2006; LatestRevisionNote: IPC-7351 Footprint Added.; DatasheetVersion: ver3.5, Sep-2005; PackageVersion: ver15.4, Dec-2008; PackageReference: UBGA49; Publisher: Altium Limited; PackageDescription: 49-Ball Ultra FineLine Ball Grid Array (UBGA49) - Wire Bond; Code_JEDEC: MO-216-BAB-2; ComponentLink1Description: Manufacturer Link; ComponentLink1URL: http://www.altera.com/products/devices/max7k/m7k-index.html; ComponentLink2Description: Datasheet; ComponentLink2URL: http://www.altera.com/literature/ds/m7000b.pdf; ComponentLink3Description: Packaging Specification; ComponentLink3URL: http://www.altera.com/literature/ds/dspkg.pdf; ComponentLink4Description: Discontinuation Notice; ComponentLink4URL: http://www.altera.com/literature/pcn/pdn0203.pdf
footprint UBGA49 (BGA, 49-Leads, Body 7x7mm, Pitch 0.8mm)
3D model EPM7128B-UBGA49 (49-Ball Ultra FineLine Ball Grid Array (UBGA49) - Wire Bond)
signal-integrity model 7kb (MAX 7000B)
part A pins: A1 IO (io), A2 IO (io), B2 IO (io), C3 IO (io)
part B pins: C1 IO (io), D2 IO (io), D4 IO (io)
part C pins: D3 IO (io), E1 IO (io), F2 IO (io), G1 IO (io)
part D pins: E3 IO (io), F3 IO (io), G2 IO (io), G3 IO (io), G4 IO (io)
part E pins: E5 IO (io), F5 IO (io), G5 IO (io), G6 IO (io), G7 IO (io)
part F pins: D5 IO (io), F6 IO (io)
part G pins: B6 IO (io), C7 IO (io), D6 IO (io), D7 IO (io)
part H pins: A6 IO (io), A7 IO (io), C4 IO (io), C5 IO (io)
part I pins: A3 INPUT/GCLRn (in), A4 INPUT/OE1 (in), A5 INPUT/GCLK1 (in), B4 INPUT/OE2/GCLK2 (in)
part J pins: B1 TDI/IO (io), B7 TDO/IO (io), D1 IO/VREFA (io), E7 IO/VREFB (io), F1 TMS/IO (io), F7 TCK/IO (io)
part K pins: B3 VCCINT (2.5 V Only) (power), C6 VCCIO2 (1.8 V, 2.5 V OR 3.3 V) (power), E2 VCCIO1 (1.8 V, 2.5 V OR 3.3 V) (power), E4 VCCINT (2.5 V Only) (power)
part L pins: B5 GNDINT (power), C2 GNDIO (power), E6 GNDIO (power), F4 GNDINT (power)
part A text: BANK A
part B text: BANK B
part C text: BANK C
part D text: BANK D
part E text: BANK E
part F text: BANK F
part G text: BANK G
part H text: BANK H

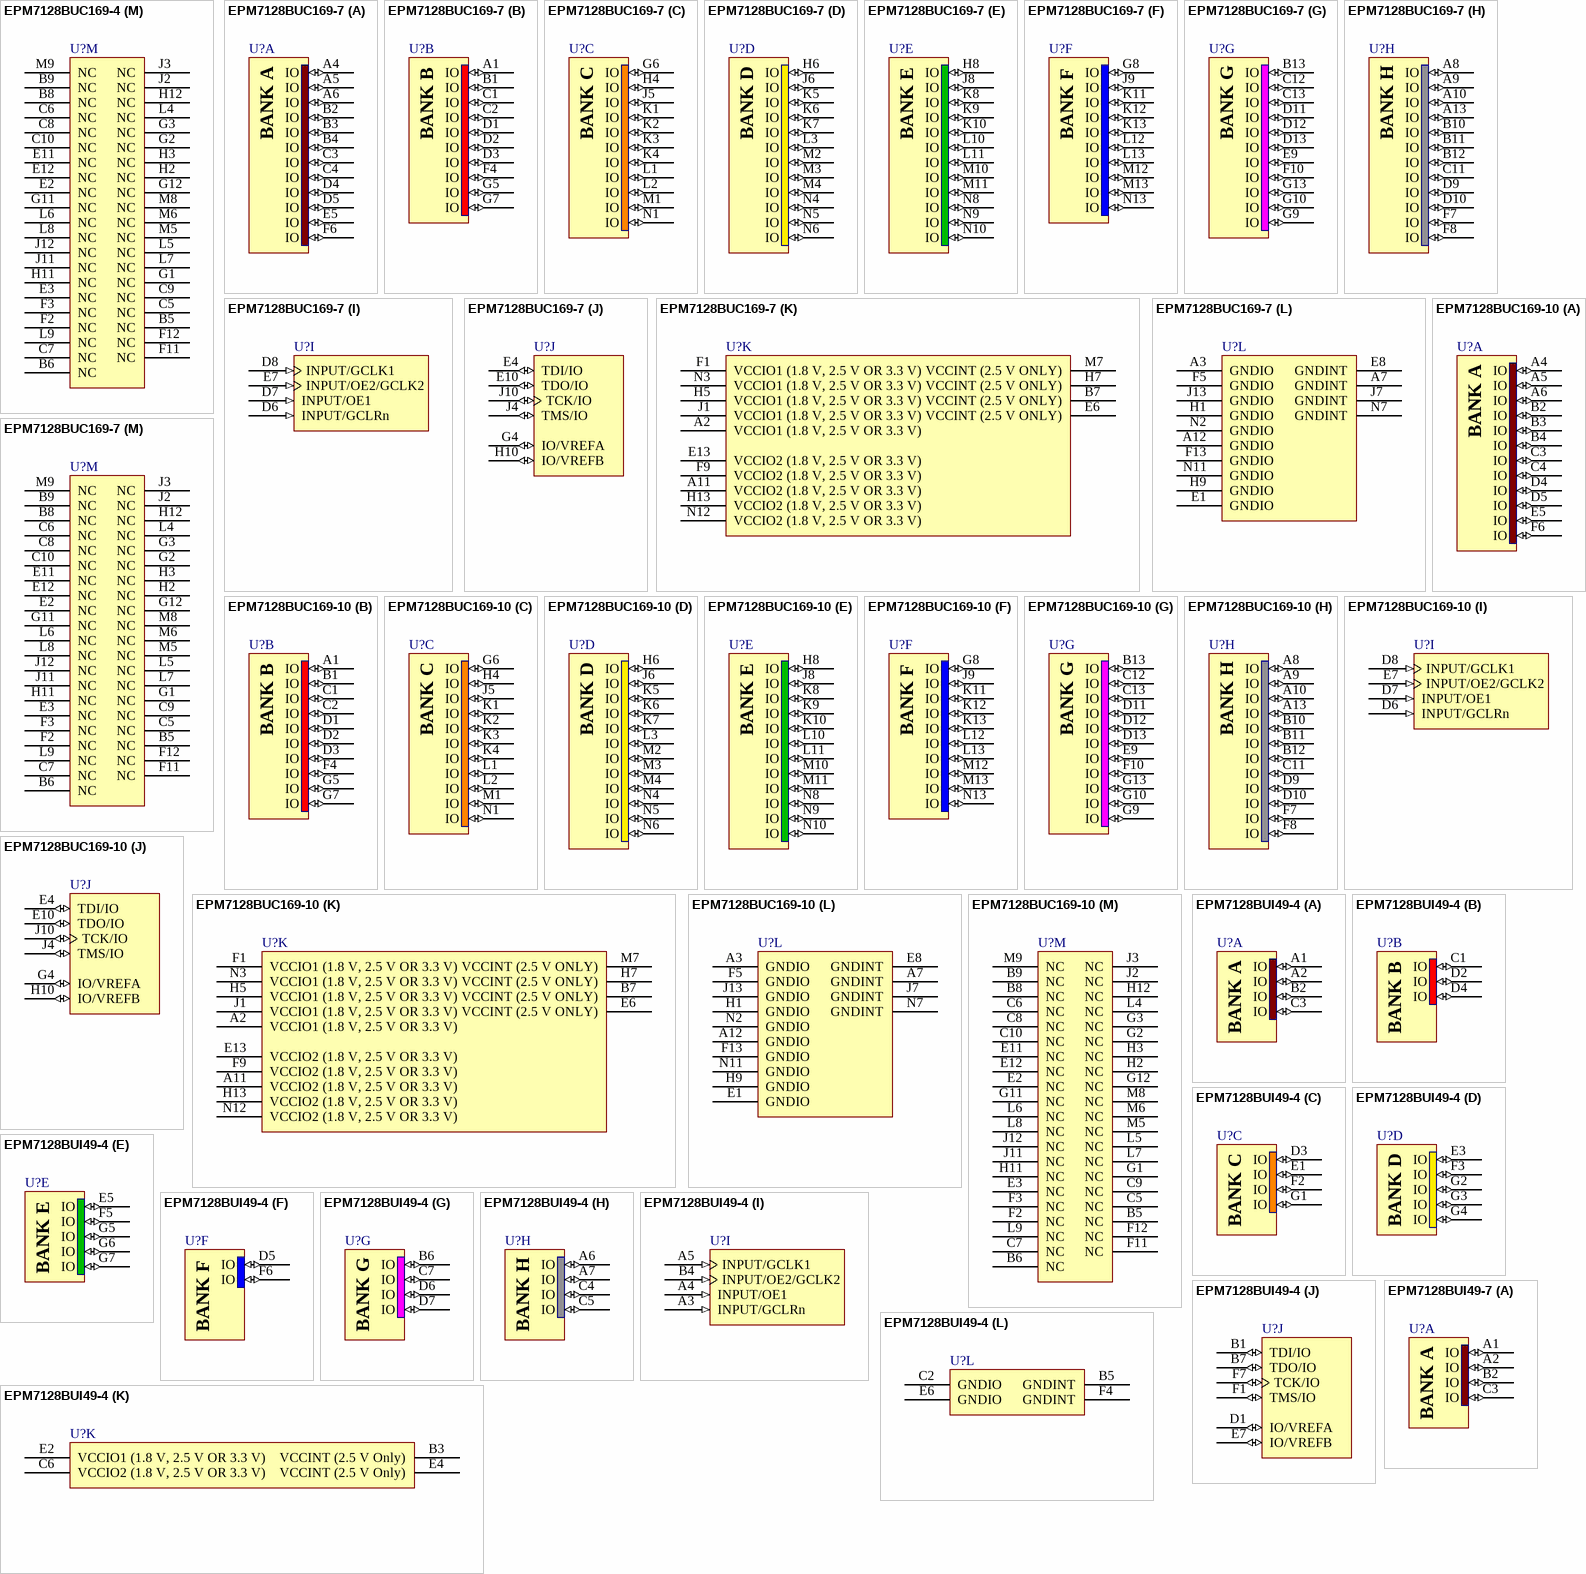
[diagram p21: symbols EPM7128BUC169-4 to EPM7128BUI49-7]

## EPM7128BUC169-4
designator U?
Max 7000B 2.5V CPLD, 128 Macrocells, 169-Pin UFBGA, Speed Grade 4, Commercial Grade; ComponentAvailability: Discontinued 2004, Compatible Substitute EPM7256BUC169-5; Published: 17-Sep-2003; LatestRevisionDate: 13-Apr-2006; LatestRevisionNote: IPC-7351 Footprint Added.; DatasheetVersion: ver3.5, Sep-2005; PackageVersion: ver15.4, Dec-2008; PackageReference: UBGA169; Publisher: Altium Limited; PackageDescription: 169-Ball Ultra FineLine Ball Grid Array (UBGA169) - Wire Bond; Code_JEDEC: MO-216-BAF-1; ComponentLink1Description: Manufacturer Link; ComponentLink1URL: http://www.altera.com/products/devices/max7k/m7k-index.html; ComponentLink2Description: Datasheet; ComponentLink2URL: http://www.altera.com/literature/ds/m7000b.pdf; ComponentLink3Description: Packaging Specification; ComponentLink3URL: http://www.altera.com/literature/ds/dspkg.pdf; ComponentLink4Description: Discontinuation Notice; ComponentLink4URL: http://www.altera.com/literature/pcn/pdn0203.pdf
footprint UBGA169 (BGA, 169-Leads, Body 11x11mm, Pitch 0.8mm)
3D model EPM7128B-UBGA169 (169-Ball Ultra FineLine Ball Grid Array (UBGA169) - Wire Bond)
signal-integrity model 7kb (MAX 7000B)
part A pins: A4 IO (io), A5 IO (io), A6 IO (io), B2 IO (io), B3 IO (io), B4 IO (io), C3 IO (io), C4 IO (io), D4 IO (io), D5 IO (io), E5 IO (io), F6 IO (io)
part B pins: A1 IO (io), B1 IO (io), C1 IO (io), C2 IO (io), D1 IO (io), D2 IO (io), D3 IO (io), F4 IO (io), G5 IO (io), G7 IO (io)
part C pins: G6 IO (io), H4 IO (io), J5 IO (io), K1 IO (io), K2 IO (io), K3 IO (io), K4 IO (io), L1 IO (io), L2 IO (io), M1 IO (io), N1 IO (io)
part D pins: H6 IO (io), J6 IO (io), K5 IO (io), K6 IO (io), K7 IO (io), L3 IO (io), M2 IO (io), M3 IO (io), M4 IO (io), N4 IO (io), N5 IO (io), N6 IO (io)
part E pins: H8 IO (io), J8 IO (io), K8 IO (io), K9 IO (io), K10 IO (io), L10 IO (io), L11 IO (io), M10 IO (io), M11 IO (io), N8 IO (io), N9 IO (io), N10 IO (io)
part F pins: G8 IO (io), J9 IO (io), K11 IO (io), K12 IO (io), K13 IO (io), L12 IO (io), L13 IO (io), M12 IO (io), M13 IO (io), N13 IO (io)
part G pins: B13 IO (io), C12 IO (io), C13 IO (io), D11 IO (io), D12 IO (io), D13 IO (io), E9 IO (io), F10 IO (io), G9 IO (io), G10 IO (io), G13 IO (io)
part H pins: A8 IO (io), A9 IO (io), A10 IO (io), A13 IO (io), B10 IO (io), B11 IO (io), B12 IO (io), C11 IO (io), D9 IO (io), D10 IO (io), F7 IO (io), F8 IO (io)
part I pins: D6 INPUT/GCLRn (in), D7 INPUT/OE1 (in), D8 INPUT/GCLK1 (in), E7 INPUT/OE2/GCLK2 (in)
part J pins: E4 TDI/IO (io), E10 TDO/IO (io), G4 IO/VREFA (io), H10 IO/VREFB (io), J4 TMS/IO (io), J10 TCK/IO (io)
part K pins: A2 VCCIO1 (1.8 V, 2.5 V OR 3.3 V) (power), A11 VCCIO2 (1.8 V, 2.5 V OR 3.3 V) (power), B7 VCCINT (2.5 V ONLY) (power), E6 VCCINT (2.5 V ONLY) (power), E13 VCCIO2 (1.8 V, 2.5 V OR 3.3 V) (power), F1 VCCIO1 (1.8 V, 2.5 V OR 3.3 V) (power), F9 VCCIO2 (1.8 V, 2.5 V OR 3.3 V) (power), H5 VCCIO1 (1.8 V, 2.5 V OR 3.3 V) (power), H7 VCCINT (2.5 V ONLY) (power), H13 VCCIO2 (1.8 V, 2.5 V OR 3.3 V) (power), J1 VCCIO1 (1.8 V, 2.5 V OR 3.3 V) (power), M7 VCCINT (2.5 V ONLY) (power), N3 VCCIO1 (1.8 V, 2.5 V OR 3.3 V) (power), N12 VCCIO2 (1.8 V, 2.5 V OR 3.3 V) (power)
part L pins: A3 GNDIO (power), A7 GNDINT (power), A12 GNDIO (power), E1 GNDIO (power), E8 GNDINT (power), F5 GNDIO (power), F13 GNDIO (power), H1 GNDIO (power), H9 GNDIO (power), J7 GNDINT (power), J13 GNDIO (power), N2 GNDIO (power), N7 GNDINT (power), N11 GNDIO (power)
part M pins: B5 NC, B6 NC, B8 NC, B9 NC, C5 NC, C6 NC, C7 NC, C8 NC, C9 NC, C10 NC, E2 NC, E3 NC, E11 NC, E12 NC, F2 NC, F3 NC, F11 NC, F12 NC, G1 NC, G2 NC, G3 NC, G11 NC, G12 NC, H2 NC, H3 NC, H11 NC, H12 NC, J2 NC, J3 NC, J11 NC, J12 NC, L4 NC, L5 NC, L6 NC, L7 NC, L8 NC, L9 NC, M5 NC, M6 NC, M8 NC, M9 NC
part A text: BANK A
part B text: BANK B
part C text: BANK C
part D text: BANK D
part E text: BANK E
part F text: BANK F
part G text: BANK G
part H text: BANK H